# Altium schematic symbol library MCU_Microchip_SAMD.SchLib: 87 symbols (part 1 of 2)
Pins are listed as number, name and electrical type; pins without a type are passive.

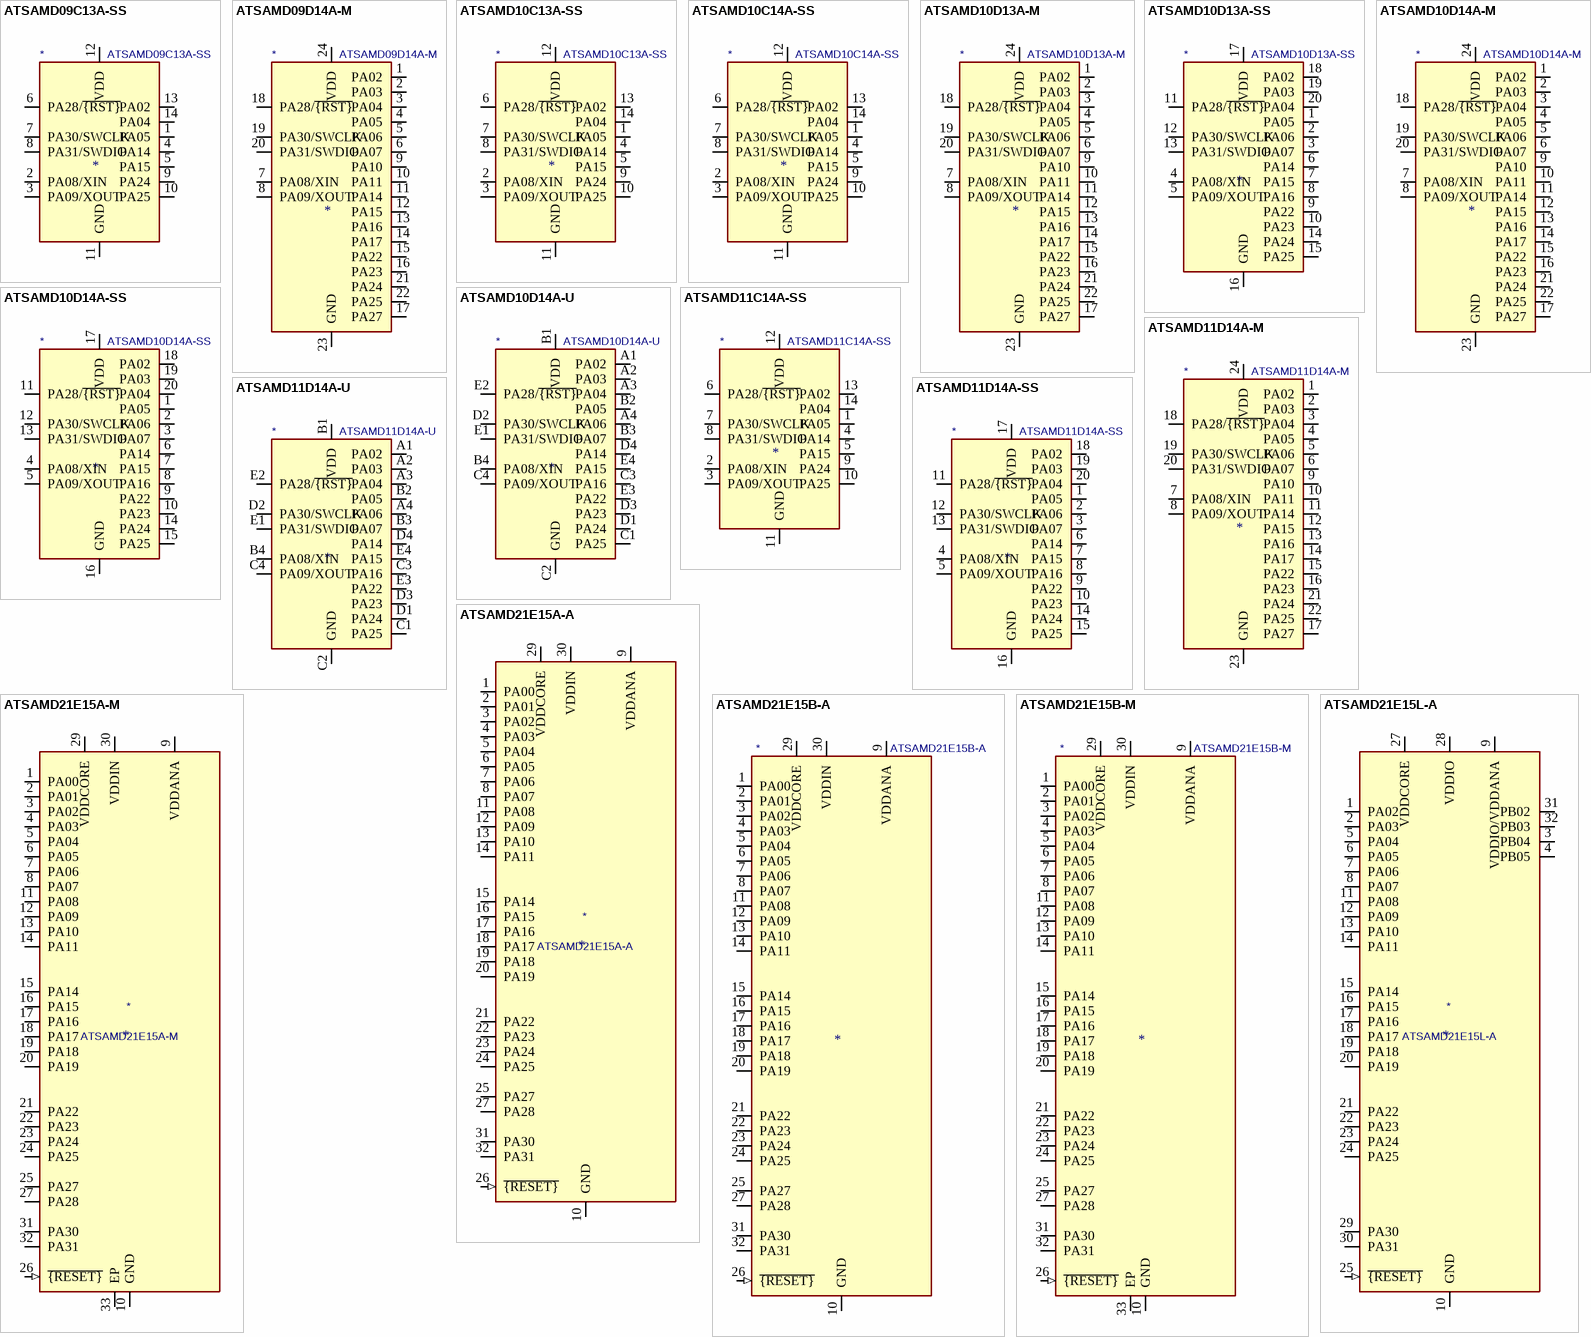
[diagram p0: symbols ATSAMD09C13A-SS to ATSAMD21E15L-A]

## ATSAMD09C13A-SS
designator *  value ATSAMD09C13A-SS
ki_keywords: 32-bit ARM Cortex-M0+ MCU Microcontroller; ki_description: ARM Cortex-M0+ MCU, 48MHz, 8KB Flash, 4KB RAM, 2.4-3.6V, 12 GPIO, SOIC-14; ki_fp_filters: SOIC*3.9x8.7mm*P1.27mm*; Footprint: Package_SO:SOIC-14_3.9x8.7mm_P1.27mm; Supplier: http://ww1.microchip.com/downloads/en/DeviceDoc/Atmel-42414-SAM-D09_Datasheet.pdf
footprint SOIC-14_3.9x8.7mm_P1.27mm
pins: 1 PA05 (io), 2 PA08/XIN (io), 3 PA09/XOUT (io), 4 PA14 (io), 5 PA15 (io), 6 PA28/~{{RST}} (io), 7 PA30/SWCLK (io), 8 PA31/SWDIO (io), 9 PA24 (io), 10 PA25 (io), 11 GND (power), 12 VDD (power), 13 PA02 (io), 14 PA04 (io)

## ATSAMD09D14A-M
designator *  value ATSAMD09D14A-M
ki_keywords: 32-bit ARM Cortex-M0+ MCU Microcontroller; ki_description: ARM Cortex-M0+ MCU, 48MHz, 16KB Flash, 4KB RAM, 2.4-3.6V, 22 GPIO, QFN-24; ki_fp_filters: QFN*1EP*4x4mm*P0.5mm*; Footprint: Package_DFN_QFN:QFN-24-1EP_4x4mm_P0.5mm_EP2.6x2.6mm; Supplier: http://ww1.microchip.com/downloads/en/DeviceDoc/Atmel-42414-SAM-D09_Datasheet.pdf
footprint QFN-24-1EP_4x4mm_P0.5mm_EP2.6x2.6mm
pins: 1 PA02 (io), 2 PA03 (io), 3 PA04 (io), 4 PA05 (io), 5 PA06 (io), 6 PA07 (io), 7 PA08/XIN (io), 8 PA09/XOUT (io), 9 PA10 (io), 10 PA11 (io), 11 PA14 (io), 12 PA15 (io), 13 PA16 (io), 14 PA17 (io), 15 PA22 (io), 16 PA23 (io), 17 PA27 (io), 18 PA28/~{{RST}} (io), 19 PA30/SWCLK (io), 20 PA31/SWDIO (io), 21 PA24 (io), 22 PA25 (io), 23 GND (power), 24 VDD (power)

## ATSAMD10C13A-SS
designator *  value ATSAMD10C13A-SS
ki_keywords: 32-bit ARM Cortex-M0+ MCU Microcontroller; ki_description: ARM Cortex-M0+ MCU, 48MHz, 8KB Flash, 4KB RAM, 1.6-3.6V, 12 GPIO, SOIC-14; ki_fp_filters: SOIC*3.9x8.7mm*P1.27mm*; Footprint: Package_SO:SOIC-14_3.9x8.7mm_P1.27mm; Supplier: http://ww1.microchip.com/downloads/en/DeviceDoc/Atmel-42242-SAM-D10_Datasheet.pdf
footprint SOIC-14_3.9x8.7mm_P1.27mm
pins: 1 PA05 (io), 2 PA08/XIN (io), 3 PA09/XOUT (io), 4 PA14 (io), 5 PA15 (io), 6 PA28/~{{RST}} (io), 7 PA30/SWCLK (io), 8 PA31/SWDIO (io), 9 PA24 (io), 10 PA25 (io), 11 GND (power), 12 VDD (power), 13 PA02 (io), 14 PA04 (io)

## ATSAMD10C14A-SS
designator *  value ATSAMD10C14A-SS
ki_keywords: 32-bit ARM Cortex-M0+ MCU Microcontroller; ki_description: ARM Cortex-M0+ MCU, 48MHz, 16KB Flash, 4KB RAM, 1.6-3.6V, 12 GPIO, SOIC-14; ki_fp_filters: SOIC*3.9x8.7mm*P1.27mm*; Footprint: Package_SO:SOIC-14_3.9x8.7mm_P1.27mm; Supplier: http://ww1.microchip.com/downloads/en/DeviceDoc/Atmel-42242-SAM-D10_Datasheet.pdf
footprint SOIC-14_3.9x8.7mm_P1.27mm
pins: 1 PA05 (io), 2 PA08/XIN (io), 3 PA09/XOUT (io), 4 PA14 (io), 5 PA15 (io), 6 PA28/~{{RST}} (io), 7 PA30/SWCLK (io), 8 PA31/SWDIO (io), 9 PA24 (io), 10 PA25 (io), 11 GND (power), 12 VDD (power), 13 PA02 (io), 14 PA04 (io)

## ATSAMD10D13A-M
designator *  value ATSAMD10D13A-M
ki_keywords: 32-bit ARM Cortex-M0+ MCU Microcontroller; ki_description: ARM Cortex-M0+ MCU, 48MHz, 8KB Flash, 4KB RAM, 1.6-3.6V, 22 GPIO, QFN-24; ki_fp_filters: QFN*1EP*4x4mm*P0.5mm*; Footprint: Package_DFN_QFN:QFN-24-1EP_4x4mm_P0.5mm_EP2.6x2.6mm; Supplier: http://ww1.microchip.com/downloads/en/DeviceDoc/Atmel-42242-SAM-D10_Datasheet.pdf
footprint QFN-24-1EP_4x4mm_P0.5mm_EP2.6x2.6mm
pins: 1 PA02 (io), 2 PA03 (io), 3 PA04 (io), 4 PA05 (io), 5 PA06 (io), 6 PA07 (io), 7 PA08/XIN (io), 8 PA09/XOUT (io), 9 PA10 (io), 10 PA11 (io), 11 PA14 (io), 12 PA15 (io), 13 PA16 (io), 14 PA17 (io), 15 PA22 (io), 16 PA23 (io), 17 PA27 (io), 18 PA28/~{{RST}} (io), 19 PA30/SWCLK (io), 20 PA31/SWDIO (io), 21 PA24 (io), 22 PA25 (io), 23 GND (power), 24 VDD (power)

## ATSAMD10D13A-SS
designator *  value ATSAMD10D13A-SS
ki_keywords: 32-bit ARM Cortex-M0+ MCU Microcontroller; ki_description: ARM Cortex-M0+ MCU, 48MHz, 8KB Flash, 4KB RAM, 1.6-3.6V, 18 GPIO, SOIC-20; ki_fp_filters: SOIC*7.5x12.8mm*P1.27mm*; Footprint: Package_SO:SOIC-20W_7.5x12.8mm_P1.27mm; Supplier: http://ww1.microchip.com/downloads/en/DeviceDoc/Atmel-42242-SAM-D10_Datasheet.pdf
footprint SOIC-20W_7.5x12.8mm_P1.27mm
pins: 1 PA05 (io), 2 PA06 (io), 3 PA07 (io), 4 PA08/XIN (io), 5 PA09/XOUT (io), 6 PA14 (io), 7 PA15 (io), 8 PA16 (io), 9 PA22 (io), 10 PA23 (io), 11 PA28/~{{RST}} (io), 12 PA30/SWCLK (io), 13 PA31/SWDIO (io), 14 PA24 (io), 15 PA25 (io), 16 GND (power), 17 VDD (power), 18 PA02 (io), 19 PA03 (io), 20 PA04 (io)

## ATSAMD10D14A-M
designator *  value ATSAMD10D14A-M
ki_keywords: 32-bit ARM Cortex-M0+ MCU Microcontroller; ki_description: ARM Cortex-M0+ MCU, 48MHz, 16KB Flash, 4KB RAM, 1.6-3.6V, 22 GPIO, QFN-24; ki_fp_filters: QFN*1EP*4x4mm*P0.5mm*; Footprint: Package_DFN_QFN:QFN-24-1EP_4x4mm_P0.5mm_EP2.6x2.6mm; Supplier: http://ww1.microchip.com/downloads/en/DeviceDoc/Atmel-42242-SAM-D10_Datasheet.pdf
footprint QFN-24-1EP_4x4mm_P0.5mm_EP2.6x2.6mm
pins: 1 PA02 (io), 2 PA03 (io), 3 PA04 (io), 4 PA05 (io), 5 PA06 (io), 6 PA07 (io), 7 PA08/XIN (io), 8 PA09/XOUT (io), 9 PA10 (io), 10 PA11 (io), 11 PA14 (io), 12 PA15 (io), 13 PA16 (io), 14 PA17 (io), 15 PA22 (io), 16 PA23 (io), 17 PA27 (io), 18 PA28/~{{RST}} (io), 19 PA30/SWCLK (io), 20 PA31/SWDIO (io), 21 PA24 (io), 22 PA25 (io), 23 GND (power), 24 VDD (power)

## ATSAMD10D14A-SS
designator *  value ATSAMD10D14A-SS
ki_keywords: 32-bit ARM Cortex-M0+ MCU Microcontroller; ki_description: ARM Cortex-M0+ MCU, 48MHz, 16KB Flash, 4KB RAM, 1.6-3.6V, 18 GPIO, SOIC-20; ki_fp_filters: SOIC*7.5x12.8mm*P1.27mm*; Footprint: Package_SO:SOIC-20W_7.5x12.8mm_P1.27mm; Supplier: http://ww1.microchip.com/downloads/en/DeviceDoc/Atmel-42242-SAM-D10_Datasheet.pdf
footprint SOIC-20W_7.5x12.8mm_P1.27mm
pins: 1 PA05 (io), 2 PA06 (io), 3 PA07 (io), 4 PA08/XIN (io), 5 PA09/XOUT (io), 6 PA14 (io), 7 PA15 (io), 8 PA16 (io), 9 PA22 (io), 10 PA23 (io), 11 PA28/~{{RST}} (io), 12 PA30/SWCLK (io), 13 PA31/SWDIO (io), 14 PA24 (io), 15 PA25 (io), 16 GND (power), 17 VDD (power), 18 PA02 (io), 19 PA03 (io), 20 PA04 (io)

## ATSAMD10D14A-U
designator *  value ATSAMD10D14A-U
ki_keywords: 32-bit ARM Cortex-M0+ MCU Microcontroller; ki_description: ARM Cortex-M0+ MCU, 48MHz, 16KB Flash, 4KB RAM, 1.6-3.6V, 18 GPIO, WLCSP-20; ki_fp_filters: WLCSP*1.934x2.434mm*Layout4x5*P0.4mm*; Footprint: Package_CSP:WLCSP-20_1.934x2.434mm_Layout4x5_P0.4mm; Supplier: http://ww1.microchip.com/downloads/en/DeviceDoc/Atmel-42242-SAM-D10_Datasheet.pdf
footprint WLCSP-20_1.934x2.434mm_Layout4x5_P0.4mm
pins: A1 PA02 (io), A2 PA03 (io), A3 PA04 (io), A4 PA06 (io), B1 VDD (power), B2 PA05 (io), B3 PA07 (io), B4 PA08/XIN (io), C1 PA25 (io), C2 GND (power), C3 PA16 (io), C4 PA09/XOUT (io), D1 PA24 (io), D2 PA30/SWCLK (io), D3 PA23 (io), D4 PA14 (io), E1 PA31/SWDIO (io), E2 PA28/~{{RST}} (io), E3 PA22 (io), E4 PA15 (io)

## ATSAMD11C14A-SS
designator *  value ATSAMD11C14A-SS
ki_keywords: 32-bit ARM Cortex-M0+ MCU Microcontroller; ki_description: ARM Cortex-M0+ MCU, 48MHz, 16KB Flash, 4KB RAM, 1.6-3.6V, 18 GPIO, SOIC-14; ki_fp_filters: SOIC*3.9x8.7mm*P1.27mm*; Footprint: Package_SO:SOIC-14_3.9x8.7mm_P1.27mm; Supplier: http://ww1.microchip.com/downloads/en/DeviceDoc/Atmel-42363-SAM-D11_Datasheet.pdf
footprint SOIC-14_3.9x8.7mm_P1.27mm
pins: 1 PA05 (io), 2 PA08/XIN (io), 3 PA09/XOUT (io), 4 PA14 (io), 5 PA15 (io), 6 PA28/~{{RST}} (io), 7 PA30/SWCLK (io), 8 PA31/SWDIO (io), 9 PA24 (io), 10 PA25 (io), 11 GND (power), 12 VDD (power), 13 PA02 (io), 14 PA04 (io)

## ATSAMD11D14A-M
designator *  value ATSAMD11D14A-M
ki_keywords: 32-bit ARM Cortex-M0+ MCU Microcontroller; ki_description: ARM Cortex-M0+ MCU, 48MHz, 16KB Flash, 4KB RAM, 1.6-3.6V, 22 GPIO, QFN-24; ki_fp_filters: QFN*1EP*4x4mm*P0.5mm*; Footprint: Package_DFN_QFN:QFN-24-1EP_4x4mm_P0.5mm_EP2.6x2.6mm; Supplier: http://ww1.microchip.com/downloads/en/DeviceDoc/Atmel-42363-SAM-D11_Datasheet.pdf
footprint QFN-24-1EP_4x4mm_P0.5mm_EP2.6x2.6mm
pins: 1 PA02 (io), 2 PA03 (io), 3 PA04 (io), 4 PA05 (io), 5 PA06 (io), 6 PA07 (io), 7 PA08/XIN (io), 8 PA09/XOUT (io), 9 PA10 (io), 10 PA11 (io), 11 PA14 (io), 12 PA15 (io), 13 PA16 (io), 14 PA17 (io), 15 PA22 (io), 16 PA23 (io), 17 PA27 (io), 18 PA28/~{{RST}} (io), 19 PA30/SWCLK (io), 20 PA31/SWDIO (io), 21 PA24 (io), 22 PA25 (io), 23 GND (power), 24 VDD (power)

## ATSAMD11D14A-SS
designator *  value ATSAMD11D14A-SS
ki_keywords: 32-bit ARM Cortex-M0+ MCU Microcontroller; ki_description: ARM Cortex-M0+ MCU, 48MHz, 16KB Flash, 4KB RAM, 1.6-3.6V, 18 GPIO, SOIC-20; ki_fp_filters: SOIC*7.5x12.8mm*P1.27mm*; Footprint: Package_SO:SOIC-20W_7.5x12.8mm_P1.27mm; Supplier: http://ww1.microchip.com/downloads/en/DeviceDoc/Atmel-42363-SAM-D11_Datasheet.pdf
footprint SOIC-20W_7.5x12.8mm_P1.27mm
pins: 1 PA05 (io), 2 PA06 (io), 3 PA07 (io), 4 PA08/XIN (io), 5 PA09/XOUT (io), 6 PA14 (io), 7 PA15 (io), 8 PA16 (io), 9 PA22 (io), 10 PA23 (io), 11 PA28/~{{RST}} (io), 12 PA30/SWCLK (io), 13 PA31/SWDIO (io), 14 PA24 (io), 15 PA25 (io), 16 GND (power), 17 VDD (power), 18 PA02 (io), 19 PA03 (io), 20 PA04 (io)

## ATSAMD11D14A-U
designator *  value ATSAMD11D14A-U
ki_keywords: 32-bit ARM Cortex-M0+ MCU Microcontroller; ki_description: ARM Cortex-M0+ MCU, 48MHz, 16KB Flash, 4KB RAM, 1.6-3.6V, 18 GPIO, WLCSP-20; ki_fp_filters: WLCSP*1.934x2.434mm*Layout4x5*P0.4mm*; Footprint: Package_CSP:WLCSP-20_1.934x2.434mm_Layout4x5_P0.4mm; Supplier: http://ww1.microchip.com/downloads/en/DeviceDoc/Atmel-42363-SAM-D11_Datasheet.pdf
footprint WLCSP-20_1.934x2.434mm_Layout4x5_P0.4mm
pins: A1 PA02 (io), A2 PA03 (io), A3 PA04 (io), A4 PA06 (io), B1 VDD (power), B2 PA05 (io), B3 PA07 (io), B4 PA08/XIN (io), C1 PA25 (io), C2 GND (power), C3 PA16 (io), C4 PA09/XOUT (io), D1 PA24 (io), D2 PA30/SWCLK (io), D3 PA23 (io), D4 PA14 (io), E1 PA31/SWDIO (io), E2 PA28/~{{RST}} (io), E3 PA22 (io), E4 PA15 (io)

## ATSAMD21E15A-A
designator *  value ATSAMD21E15A-A
ki_keywords: 32-bit ARM Cortex-M0+ MCU Microcontroller; ki_description: SAM D21 Microchip SMART ARM-based Flash MCU, 48Mhz, 32K Flash, 4K SRAM, TQFP-32; ki_fp_filters: TQFP*7x7mm*P0.8mm*; Footprint: Package_QFP:TQFP-32_7x7mm_P0.8mm; Supplier: http://ww1.microchip.com/downloads/en/DeviceDoc/SAM_D21_DA1_Family_Data%20Sheet_DS40001882E.pdf
footprint TQFP-32_7x7mm_P0.8mm
pins: 1 PA00 (io), 2 PA01 (io), 3 PA02 (io), 4 PA03 (io), 5 PA04 (io), 6 PA05 (io), 7 PA06 (io), 8 PA07 (io), 9 VDDANA (power), 10 GND (power), 11 PA08 (io), 12 PA09 (io), 13 PA10 (io), 14 PA11 (io), 15 PA14 (io), 16 PA15 (io), 17 PA16 (io), 18 PA17 (io), 19 PA18 (io), 20 PA19 (io), 21 PA22 (io), 22 PA23 (io), 23 PA24 (io), 24 PA25 (io), 25 PA27 (io), 26 ~{{RESET}} (in), 27 PA28 (io), 28 GND hidden, 29 VDDCORE (power), 30 VDDIN (power), 31 PA30 (io), 32 PA31 (io)

## ATSAMD21E15A-M
designator *  value ATSAMD21E15A-M
ki_keywords: 32-bit ARM Cortex-M0+ MCU Microcontroller; ki_description: SAM D21 Microchip SMART ARM-based Flash MCU, 48Mhz, 32K Flash, 4K SRAM, QFN-32; ki_fp_filters: QFN*5x5mm*P0.5mm*; Footprint: Package_DFN_QFN:QFN-32-1EP_5x5mm_P0.5mm_EP3.6x3.6mm; Supplier: http://ww1.microchip.com/downloads/en/DeviceDoc/SAM_D21_DA1_Family_Data%20Sheet_DS40001882E.pdf
footprint QFN-32-1EP_5x5mm_P0.5mm_EP3.6x3.6mm
pins: 1 PA00 (io), 2 PA01 (io), 3 PA02 (io), 4 PA03 (io), 5 PA04 (io), 6 PA05 (io), 7 PA06 (io), 8 PA07 (io), 9 VDDANA (power), 10 GND (power), 11 PA08 (io), 12 PA09 (io), 13 PA10 (io), 14 PA11 (io), 15 PA14 (io), 16 PA15 (io), 17 PA16 (io), 18 PA17 (io), 19 PA18 (io), 20 PA19 (io), 21 PA22 (io), 22 PA23 (io), 23 PA24 (io), 24 PA25 (io), 25 PA27 (io), 26 ~{{RESET}} (in), 27 PA28 (io), 28 GND hidden, 29 VDDCORE (power), 30 VDDIN (power), 31 PA30 (io), 32 PA31 (io), 33 EP

## ATSAMD21E15B-A
designator *  value ATSAMD21E15B-A
ki_keywords: 32-bit ARM Cortex-M0+ MCU Microcontroller; ki_description: SAM D21 Microchip SMART ARM-based Flash MCU, 48Mhz, 32K Flash w/ 1K RWW, 4K SRAM, TQFP-32; ki_fp_filters: TQFP*7x7mm*P0.8mm*; Footprint: Package_QFP:TQFP-32_7x7mm_P0.8mm; Supplier: http://ww1.microchip.com/downloads/en/DeviceDoc/SAM_D21_DA1_Family_Data%20Sheet_DS40001882E.pdf
footprint TQFP-32_7x7mm_P0.8mm
pins: 1 PA00 (io), 2 PA01 (io), 3 PA02 (io), 4 PA03 (io), 5 PA04 (io), 6 PA05 (io), 7 PA06 (io), 8 PA07 (io), 9 VDDANA (power), 10 GND (power), 11 PA08 (io), 12 PA09 (io), 13 PA10 (io), 14 PA11 (io), 15 PA14 (io), 16 PA15 (io), 17 PA16 (io), 18 PA17 (io), 19 PA18 (io), 20 PA19 (io), 21 PA22 (io), 22 PA23 (io), 23 PA24 (io), 24 PA25 (io), 25 PA27 (io), 26 ~{{RESET}} (in), 27 PA28 (io), 28 GND hidden, 29 VDDCORE (power), 30 VDDIN (power), 31 PA30 (io), 32 PA31 (io)

## ATSAMD21E15B-M
designator *  value ATSAMD21E15B-M
ki_keywords: 32-bit ARM Cortex-M0+ MCU Microcontroller; ki_description: SAM D21 Microchip SMART ARM-based Flash MCU, 48Mhz, 32K Flash w/ 1K RWW, 4K SRAM, QFN-32; ki_fp_filters: QFN*5x5mm*P0.5mm*; Footprint: Package_DFN_QFN:QFN-32-1EP_5x5mm_P0.5mm_EP3.6x3.6mm; Supplier: http://ww1.microchip.com/downloads/en/DeviceDoc/SAM_D21_DA1_Family_Data%20Sheet_DS40001882E.pdf
footprint QFN-32-1EP_5x5mm_P0.5mm_EP3.6x3.6mm
pins: 1 PA00 (io), 2 PA01 (io), 3 PA02 (io), 4 PA03 (io), 5 PA04 (io), 6 PA05 (io), 7 PA06 (io), 8 PA07 (io), 9 VDDANA (power), 10 GND (power), 11 PA08 (io), 12 PA09 (io), 13 PA10 (io), 14 PA11 (io), 15 PA14 (io), 16 PA15 (io), 17 PA16 (io), 18 PA17 (io), 19 PA18 (io), 20 PA19 (io), 21 PA22 (io), 22 PA23 (io), 23 PA24 (io), 24 PA25 (io), 25 PA27 (io), 26 ~{{RESET}} (in), 27 PA28 (io), 28 GND hidden, 29 VDDCORE (power), 30 VDDIN (power), 31 PA30 (io), 32 PA31 (io), 33 EP

## ATSAMD21E15L-A
designator *  value ATSAMD21E15L-A
ki_keywords: 32-bit ARM Cortex-M0+ MCU Microcontroller; ki_description: SAM D21 Microchip SMART ARM-based Flash MCU, 48Mhz, 32K Flash w/ 1K RWW, 4K SRAM, Pinout Optimized for Analog & PWM, TQFP-32; ki_fp_filters: TQFP*7x7mm*P0.8mm*; Footprint: Package_QFP:TQFP-32_7x7mm_P0.8mm; Supplier: http://ww1.microchip.com/downloads/en/DeviceDoc/SAM_D21_DA1_Family_Data%20Sheet_DS40001882E.pdf
footprint TQFP-32_7x7mm_P0.8mm
pins: 1 PA02 (io), 2 PA03 (io), 3 PB04 (io), 4 PB05 (io), 5 PA04 (io), 6 PA05 (io), 7 PA06 (io), 8 PA07 (io), 9 VDDIO/VDDANA (power), 10 GND (power), 11 PA08 (io), 12 PA09 (io), 13 PA10 (io), 14 PA11 (io), 15 PA14 (io), 16 PA15 (io), 17 PA16 (io), 18 PA17 (io), 19 PA18 (io), 20 PA19 (io), 21 PA22 (io), 22 PA23 (io), 23 PA24 (io), 24 PA25 (io), 25 ~{{RESET}} (in), 26 GND hidden, 27 VDDCORE (power), 28 VDDIO (power), 29 PA30 (io), 30 PA31 (io), 31 PB02 (io), 32 PB03 (io)

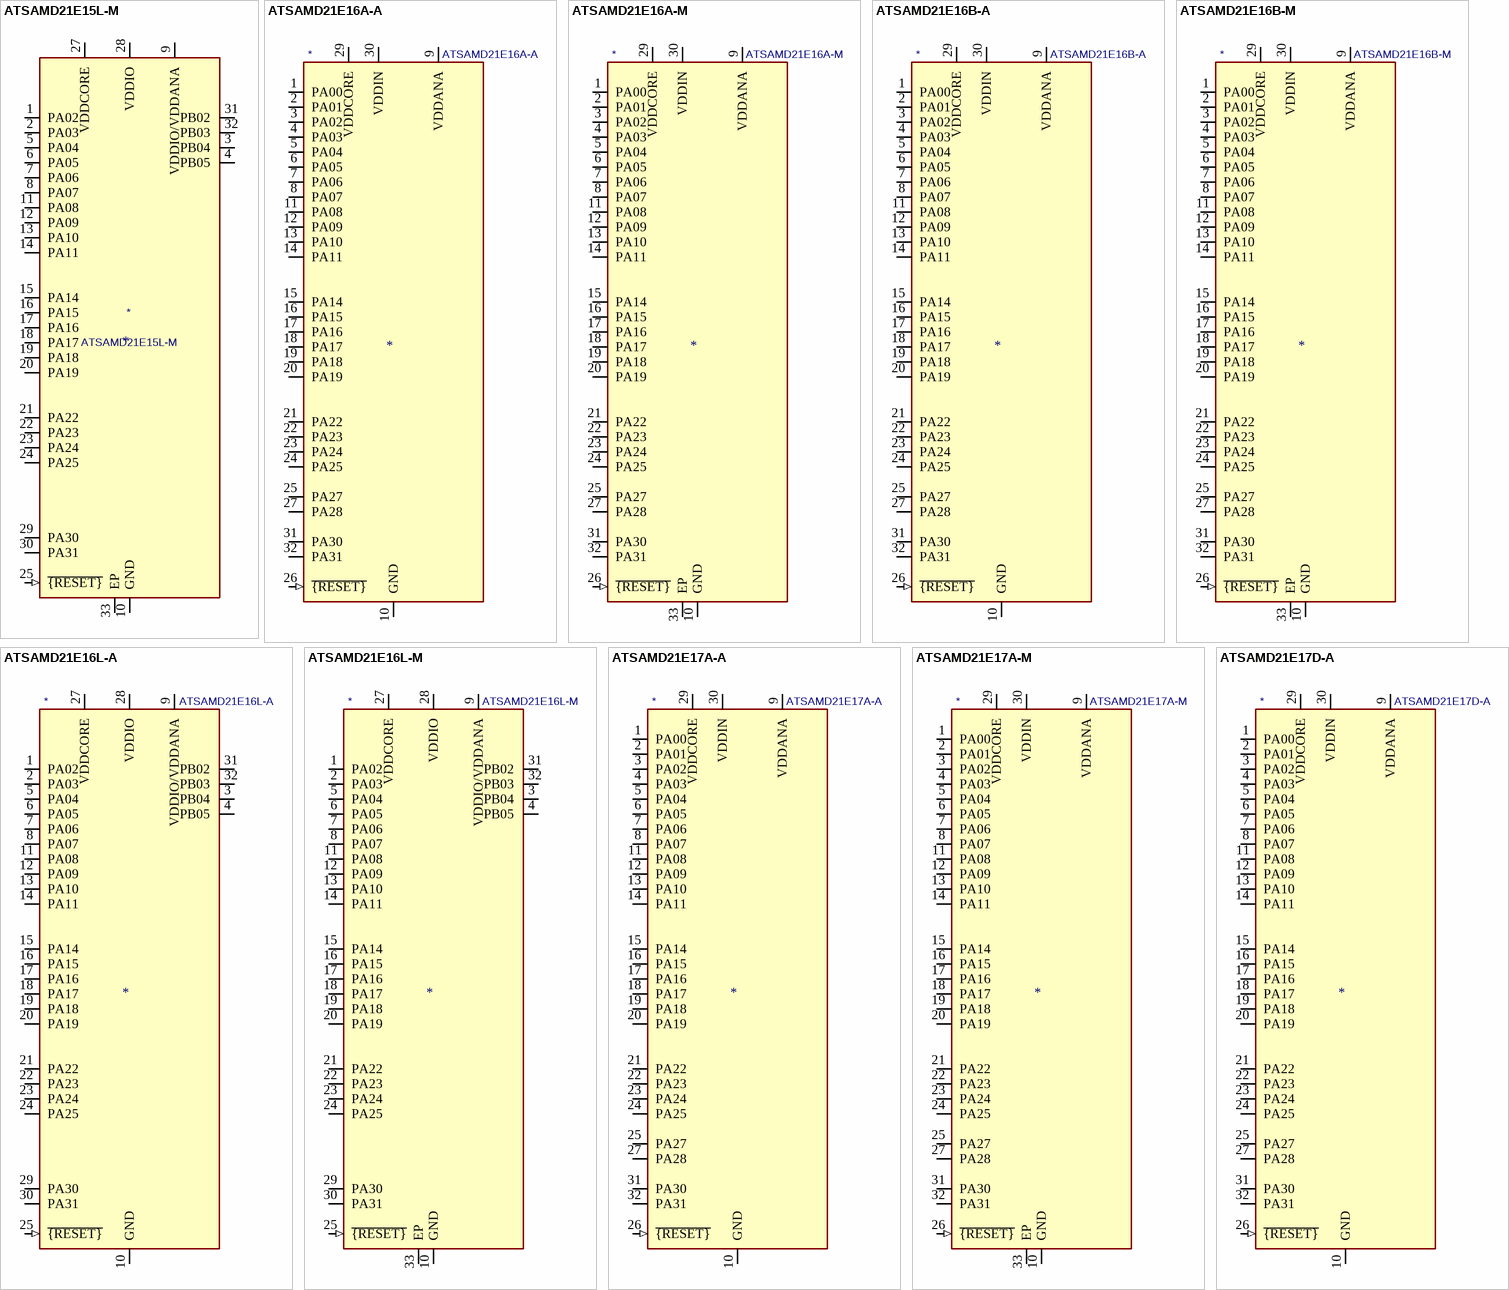
[diagram p1: symbols ATSAMD21E15L-M to ATSAMD21E17D-A]

## ATSAMD21E15L-M
designator *  value ATSAMD21E15L-M
ki_keywords: 32-bit ARM Cortex-M0+ MCU Microcontroller; ki_description: SAM D21 Microchip SMART ARM-based Flash MCU, 48Mhz, 32K Flash w/ 1K RWW, 4K SRAM, Pinout Optimized for Analog & PWM, QFN-32; ki_fp_filters: QFN*5x5mm*P0.5mm*; Footprint: Package_DFN_QFN:QFN-32-1EP_5x5mm_P0.5mm_EP3.6x3.6mm; Supplier: http://ww1.microchip.com/downloads/en/DeviceDoc/SAM_D21_DA1_Family_Data%20Sheet_DS40001882E.pdf
footprint QFN-32-1EP_5x5mm_P0.5mm_EP3.6x3.6mm
pins: 1 PA02 (io), 2 PA03 (io), 3 PB04 (io), 4 PB05 (io), 5 PA04 (io), 6 PA05 (io), 7 PA06 (io), 8 PA07 (io), 9 VDDIO/VDDANA (power), 10 GND (power), 11 PA08 (io), 12 PA09 (io), 13 PA10 (io), 14 PA11 (io), 15 PA14 (io), 16 PA15 (io), 17 PA16 (io), 18 PA17 (io), 19 PA18 (io), 20 PA19 (io), 21 PA22 (io), 22 PA23 (io), 23 PA24 (io), 24 PA25 (io), 25 ~{{RESET}} (in), 26 GND hidden, 27 VDDCORE (power), 28 VDDIO (power), 29 PA30 (io), 30 PA31 (io), 31 PB02 (io), 32 PB03 (io), 33 EP

## ATSAMD21E16A-A
designator *  value ATSAMD21E16A-A
ki_keywords: 32-bit ARM Cortex-M0+ MCU Microcontroller; ki_description: SAM D21 Microchip SMART ARM-based Flash MCU, 48Mhz, 64K Flash, 8K SRAM, TQFP-32; ki_fp_filters: TQFP*7x7mm*P0.8mm*; Footprint: Package_QFP:TQFP-32_7x7mm_P0.8mm; Supplier: http://ww1.microchip.com/downloads/en/DeviceDoc/SAM_D21_DA1_Family_Data%20Sheet_DS40001882E.pdf
footprint TQFP-32_7x7mm_P0.8mm
pins: 1 PA00 (io), 2 PA01 (io), 3 PA02 (io), 4 PA03 (io), 5 PA04 (io), 6 PA05 (io), 7 PA06 (io), 8 PA07 (io), 9 VDDANA (power), 10 GND (power), 11 PA08 (io), 12 PA09 (io), 13 PA10 (io), 14 PA11 (io), 15 PA14 (io), 16 PA15 (io), 17 PA16 (io), 18 PA17 (io), 19 PA18 (io), 20 PA19 (io), 21 PA22 (io), 22 PA23 (io), 23 PA24 (io), 24 PA25 (io), 25 PA27 (io), 26 ~{{RESET}} (in), 27 PA28 (io), 28 GND hidden, 29 VDDCORE (power), 30 VDDIN (power), 31 PA30 (io), 32 PA31 (io)

## ATSAMD21E16A-M
designator *  value ATSAMD21E16A-M
ki_keywords: 32-bit ARM Cortex-M0+ MCU Microcontroller; ki_description: SAM D21 Microchip SMART ARM-based Flash MCU, 48Mhz, 64K Flash, 8K SRAM, QFN-32; ki_fp_filters: QFN*5x5mm*P0.5mm*; Footprint: Package_DFN_QFN:QFN-32-1EP_5x5mm_P0.5mm_EP3.6x3.6mm; Supplier: http://ww1.microchip.com/downloads/en/DeviceDoc/SAM_D21_DA1_Family_Data%20Sheet_DS40001882E.pdf
footprint QFN-32-1EP_5x5mm_P0.5mm_EP3.6x3.6mm
pins: 1 PA00 (io), 2 PA01 (io), 3 PA02 (io), 4 PA03 (io), 5 PA04 (io), 6 PA05 (io), 7 PA06 (io), 8 PA07 (io), 9 VDDANA (power), 10 GND (power), 11 PA08 (io), 12 PA09 (io), 13 PA10 (io), 14 PA11 (io), 15 PA14 (io), 16 PA15 (io), 17 PA16 (io), 18 PA17 (io), 19 PA18 (io), 20 PA19 (io), 21 PA22 (io), 22 PA23 (io), 23 PA24 (io), 24 PA25 (io), 25 PA27 (io), 26 ~{{RESET}} (in), 27 PA28 (io), 28 GND hidden, 29 VDDCORE (power), 30 VDDIN (power), 31 PA30 (io), 32 PA31 (io), 33 EP

## ATSAMD21E16B-A
designator *  value ATSAMD21E16B-A
ki_keywords: 32-bit ARM Cortex-M0+ MCU Microcontroller; ki_description: SAM D21 Microchip SMART ARM-based Flash MCU, 48Mhz, 64K Flash w/ 2K RWW, 8K SRAM, TQFP-32; ki_fp_filters: TQFP*7x7mm*P0.8mm*; Footprint: Package_QFP:TQFP-32_7x7mm_P0.8mm; Supplier: http://ww1.microchip.com/downloads/en/DeviceDoc/SAM_D21_DA1_Family_Data%20Sheet_DS40001882E.pdf
footprint TQFP-32_7x7mm_P0.8mm
pins: 1 PA00 (io), 2 PA01 (io), 3 PA02 (io), 4 PA03 (io), 5 PA04 (io), 6 PA05 (io), 7 PA06 (io), 8 PA07 (io), 9 VDDANA (power), 10 GND (power), 11 PA08 (io), 12 PA09 (io), 13 PA10 (io), 14 PA11 (io), 15 PA14 (io), 16 PA15 (io), 17 PA16 (io), 18 PA17 (io), 19 PA18 (io), 20 PA19 (io), 21 PA22 (io), 22 PA23 (io), 23 PA24 (io), 24 PA25 (io), 25 PA27 (io), 26 ~{{RESET}} (in), 27 PA28 (io), 28 GND hidden, 29 VDDCORE (power), 30 VDDIN (power), 31 PA30 (io), 32 PA31 (io)

## ATSAMD21E16B-M
designator *  value ATSAMD21E16B-M
ki_keywords: 32-bit ARM Cortex-M0+ MCU Microcontroller; ki_description: SAM D21 Microchip SMART ARM-based Flash MCU, 48Mhz, 64K Flash w/ 2K RWW, 8K SRAM, QFN-32; ki_fp_filters: QFN*5x5mm*P0.5mm*; Footprint: Package_DFN_QFN:QFN-32-1EP_5x5mm_P0.5mm_EP3.6x3.6mm; Supplier: http://ww1.microchip.com/downloads/en/DeviceDoc/SAM_D21_DA1_Family_Data%20Sheet_DS40001882E.pdf
footprint QFN-32-1EP_5x5mm_P0.5mm_EP3.6x3.6mm
pins: 1 PA00 (io), 2 PA01 (io), 3 PA02 (io), 4 PA03 (io), 5 PA04 (io), 6 PA05 (io), 7 PA06 (io), 8 PA07 (io), 9 VDDANA (power), 10 GND (power), 11 PA08 (io), 12 PA09 (io), 13 PA10 (io), 14 PA11 (io), 15 PA14 (io), 16 PA15 (io), 17 PA16 (io), 18 PA17 (io), 19 PA18 (io), 20 PA19 (io), 21 PA22 (io), 22 PA23 (io), 23 PA24 (io), 24 PA25 (io), 25 PA27 (io), 26 ~{{RESET}} (in), 27 PA28 (io), 28 GND hidden, 29 VDDCORE (power), 30 VDDIN (power), 31 PA30 (io), 32 PA31 (io), 33 EP

## ATSAMD21E16L-A
designator *  value ATSAMD21E16L-A
ki_keywords: 32-bit ARM Cortex-M0+ MCU Microcontroller; ki_description: SAM D21 Microchip SMART ARM-based Flash MCU, 48Mhz, 64K Flash w/ 2K RWW, 8K SRAM, Pinout Optimized for Analog & PWM, TQFP-32; ki_fp_filters: TQFP*7x7mm*P0.8mm*; Footprint: Package_QFP:TQFP-32_7x7mm_P0.8mm; Supplier: http://ww1.microchip.com/downloads/en/DeviceDoc/SAM_D21_DA1_Family_Data%20Sheet_DS40001882E.pdf
footprint TQFP-32_7x7mm_P0.8mm
pins: 1 PA02 (io), 2 PA03 (io), 3 PB04 (io), 4 PB05 (io), 5 PA04 (io), 6 PA05 (io), 7 PA06 (io), 8 PA07 (io), 9 VDDIO/VDDANA (power), 10 GND (power), 11 PA08 (io), 12 PA09 (io), 13 PA10 (io), 14 PA11 (io), 15 PA14 (io), 16 PA15 (io), 17 PA16 (io), 18 PA17 (io), 19 PA18 (io), 20 PA19 (io), 21 PA22 (io), 22 PA23 (io), 23 PA24 (io), 24 PA25 (io), 25 ~{{RESET}} (in), 26 GND hidden, 27 VDDCORE (power), 28 VDDIO (power), 29 PA30 (io), 30 PA31 (io), 31 PB02 (io), 32 PB03 (io)

## ATSAMD21E16L-M
designator *  value ATSAMD21E16L-M
ki_keywords: 32-bit ARM Cortex-M0+ MCU Microcontroller; ki_description: SAM D21 Microchip SMART ARM-based Flash MCU, 48Mhz, 64K Flash w/ 2K RWW, 8K SRAM, Pinout Optimized for Analog & PWM, QFN-32; ki_fp_filters: QFN*5x5mm*P0.5mm*; Footprint: Package_DFN_QFN:QFN-32-1EP_5x5mm_P0.5mm_EP3.6x3.6mm; Supplier: http://ww1.microchip.com/downloads/en/DeviceDoc/SAM_D21_DA1_Family_Data%20Sheet_DS40001882E.pdf
footprint QFN-32-1EP_5x5mm_P0.5mm_EP3.6x3.6mm
pins: 1 PA02 (io), 2 PA03 (io), 3 PB04 (io), 4 PB05 (io), 5 PA04 (io), 6 PA05 (io), 7 PA06 (io), 8 PA07 (io), 9 VDDIO/VDDANA (power), 10 GND (power), 11 PA08 (io), 12 PA09 (io), 13 PA10 (io), 14 PA11 (io), 15 PA14 (io), 16 PA15 (io), 17 PA16 (io), 18 PA17 (io), 19 PA18 (io), 20 PA19 (io), 21 PA22 (io), 22 PA23 (io), 23 PA24 (io), 24 PA25 (io), 25 ~{{RESET}} (in), 26 GND hidden, 27 VDDCORE (power), 28 VDDIO (power), 29 PA30 (io), 30 PA31 (io), 31 PB02 (io), 32 PB03 (io), 33 EP

## ATSAMD21E17A-A
designator *  value ATSAMD21E17A-A
ki_keywords: 32-bit ARM Cortex-M0+ MCU Microcontroller; ki_description: SAM D21 Microchip SMART ARM-based Flash MCU, 48Mhz, 128K Flash, 16K SRAM, TQFP-32; ki_fp_filters: TQFP*7x7mm*P0.8mm*; Footprint: Package_QFP:TQFP-32_7x7mm_P0.8mm; Supplier: http://ww1.microchip.com/downloads/en/DeviceDoc/SAM_D21_DA1_Family_Data%20Sheet_DS40001882E.pdf
footprint TQFP-32_7x7mm_P0.8mm
pins: 1 PA00 (io), 2 PA01 (io), 3 PA02 (io), 4 PA03 (io), 5 PA04 (io), 6 PA05 (io), 7 PA06 (io), 8 PA07 (io), 9 VDDANA (power), 10 GND (power), 11 PA08 (io), 12 PA09 (io), 13 PA10 (io), 14 PA11 (io), 15 PA14 (io), 16 PA15 (io), 17 PA16 (io), 18 PA17 (io), 19 PA18 (io), 20 PA19 (io), 21 PA22 (io), 22 PA23 (io), 23 PA24 (io), 24 PA25 (io), 25 PA27 (io), 26 ~{{RESET}} (in), 27 PA28 (io), 28 GND hidden, 29 VDDCORE (power), 30 VDDIN (power), 31 PA30 (io), 32 PA31 (io)

## ATSAMD21E17A-M
designator *  value ATSAMD21E17A-M
ki_keywords: 32-bit ARM Cortex-M0+ MCU Microcontroller; ki_description: SAM D21 Microchip SMART ARM-based Flash MCU, 48Mhz, 128K Flash, 16K SRAM, QFN-32; ki_fp_filters: QFN*5x5mm*P0.5mm*; Footprint: Package_DFN_QFN:QFN-32-1EP_5x5mm_P0.5mm_EP3.6x3.6mm; Supplier: http://ww1.microchip.com/downloads/en/DeviceDoc/SAM_D21_DA1_Family_Data%20Sheet_DS40001882E.pdf
footprint QFN-32-1EP_5x5mm_P0.5mm_EP3.6x3.6mm
pins: 1 PA00 (io), 2 PA01 (io), 3 PA02 (io), 4 PA03 (io), 5 PA04 (io), 6 PA05 (io), 7 PA06 (io), 8 PA07 (io), 9 VDDANA (power), 10 GND (power), 11 PA08 (io), 12 PA09 (io), 13 PA10 (io), 14 PA11 (io), 15 PA14 (io), 16 PA15 (io), 17 PA16 (io), 18 PA17 (io), 19 PA18 (io), 20 PA19 (io), 21 PA22 (io), 22 PA23 (io), 23 PA24 (io), 24 PA25 (io), 25 PA27 (io), 26 ~{{RESET}} (in), 27 PA28 (io), 28 GND hidden, 29 VDDCORE (power), 30 VDDIN (power), 31 PA30 (io), 32 PA31 (io), 33 EP

## ATSAMD21E17D-A
designator *  value ATSAMD21E17D-A
ki_keywords: 32-bit ARM Cortex-M0+ MCU Microcontroller; ki_description: SAM D21 Microchip SMART ARM-based Flash MCU, 48Mhz, 128K Flash w/ 4K RWW, 16K SRAM, TQFP-32; ki_fp_filters: TQFP*7x7mm*P0.8mm*; Footprint: Package_QFP:TQFP-32_7x7mm_P0.8mm; Supplier: http://ww1.microchip.com/downloads/en/DeviceDoc/SAM_D21_DA1_Family_Data%20Sheet_DS40001882E.pdf
footprint TQFP-32_7x7mm_P0.8mm
pins: 1 PA00 (io), 2 PA01 (io), 3 PA02 (io), 4 PA03 (io), 5 PA04 (io), 6 PA05 (io), 7 PA06 (io), 8 PA07 (io), 9 VDDANA (power), 10 GND (power), 11 PA08 (io), 12 PA09 (io), 13 PA10 (io), 14 PA11 (io), 15 PA14 (io), 16 PA15 (io), 17 PA16 (io), 18 PA17 (io), 19 PA18 (io), 20 PA19 (io), 21 PA22 (io), 22 PA23 (io), 23 PA24 (io), 24 PA25 (io), 25 PA27 (io), 26 ~{{RESET}} (in), 27 PA28 (io), 28 GND hidden, 29 VDDCORE (power), 30 VDDIN (power), 31 PA30 (io), 32 PA31 (io)

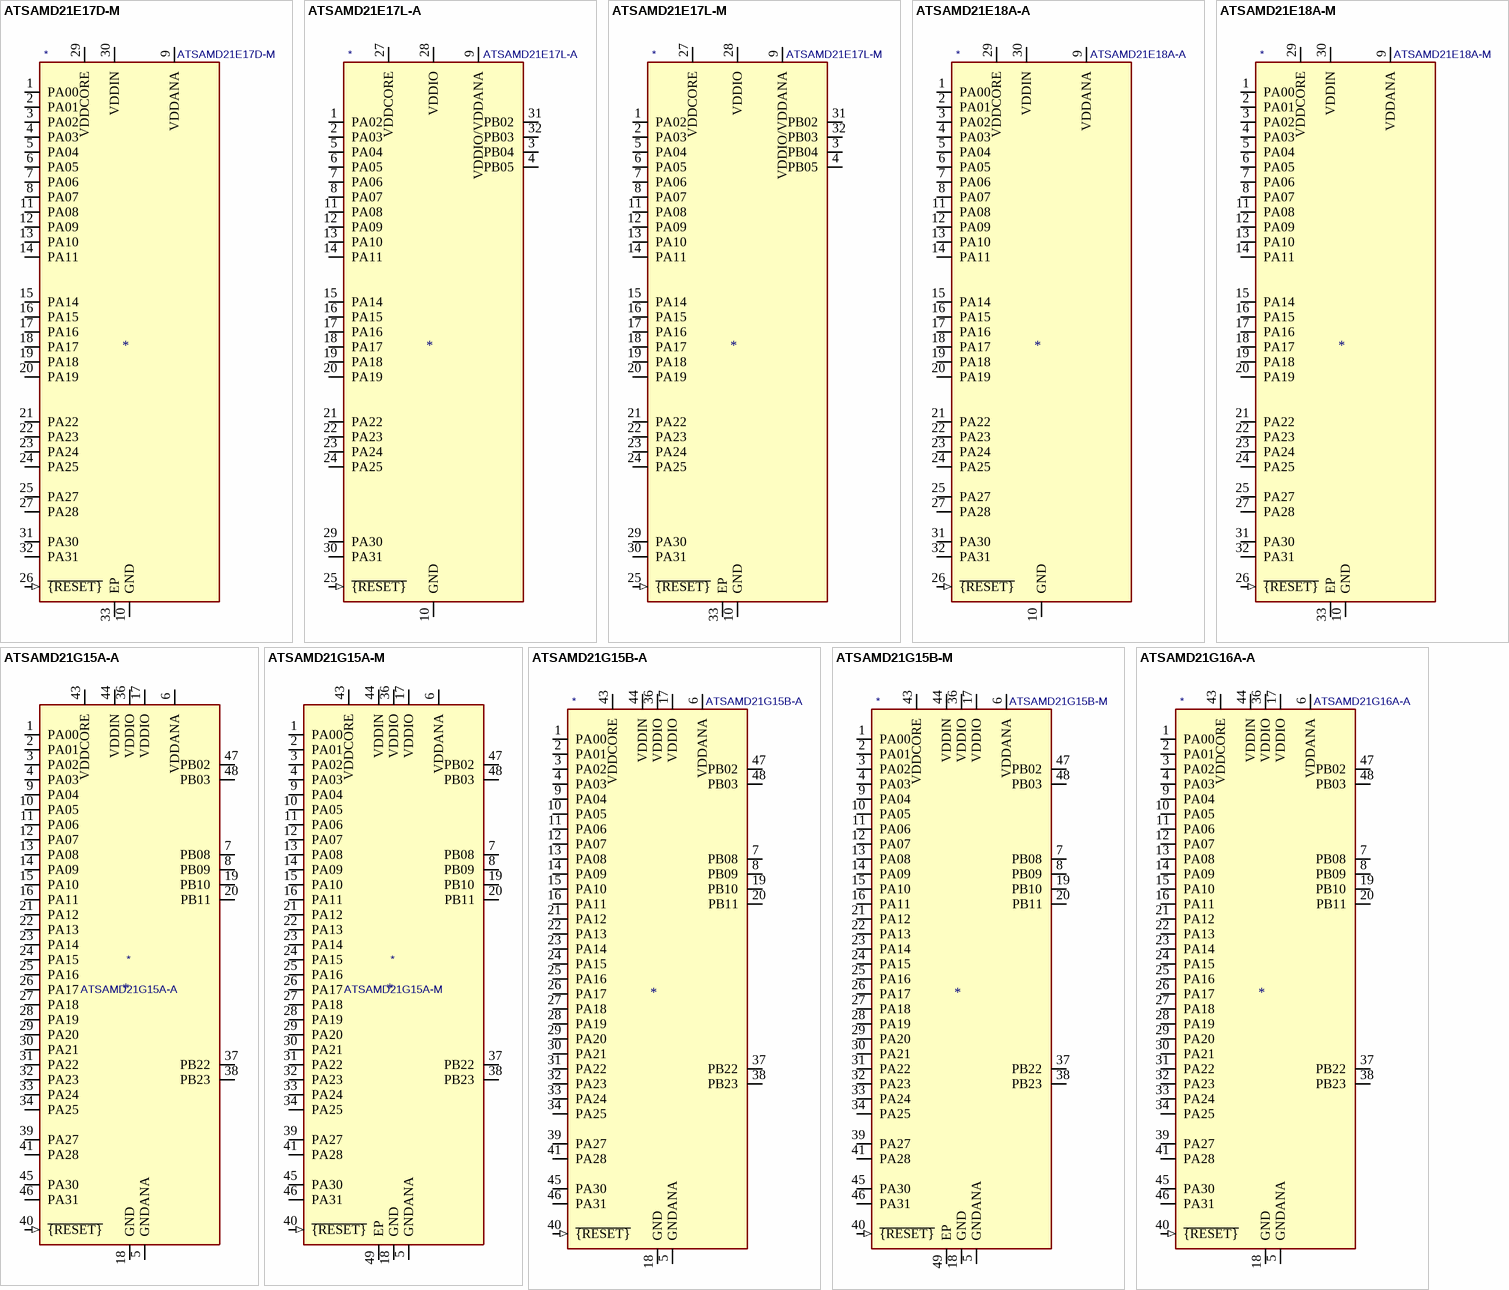
[diagram p2: symbols ATSAMD21E17D-M to ATSAMD21G16A-A]

## ATSAMD21E17D-M
designator *  value ATSAMD21E17D-M
ki_keywords: 32-bit ARM Cortex-M0+ MCU Microcontroller; ki_description: SAM D21 Microchip SMART ARM-based Flash MCU, 48Mhz, 128K Flash w/ 4K RWW, 16K SRAM, QFN-32; ki_fp_filters: QFN*5x5mm*P0.5mm*; Footprint: Package_DFN_QFN:QFN-32-1EP_5x5mm_P0.5mm_EP3.6x3.6mm; Supplier: http://ww1.microchip.com/downloads/en/DeviceDoc/SAM_D21_DA1_Family_Data%20Sheet_DS40001882E.pdf
footprint QFN-32-1EP_5x5mm_P0.5mm_EP3.6x3.6mm
pins: 1 PA00 (io), 2 PA01 (io), 3 PA02 (io), 4 PA03 (io), 5 PA04 (io), 6 PA05 (io), 7 PA06 (io), 8 PA07 (io), 9 VDDANA (power), 10 GND (power), 11 PA08 (io), 12 PA09 (io), 13 PA10 (io), 14 PA11 (io), 15 PA14 (io), 16 PA15 (io), 17 PA16 (io), 18 PA17 (io), 19 PA18 (io), 20 PA19 (io), 21 PA22 (io), 22 PA23 (io), 23 PA24 (io), 24 PA25 (io), 25 PA27 (io), 26 ~{{RESET}} (in), 27 PA28 (io), 28 GND hidden, 29 VDDCORE (power), 30 VDDIN (power), 31 PA30 (io), 32 PA31 (io), 33 EP

## ATSAMD21E17L-A
designator *  value ATSAMD21E17L-A
ki_keywords: 32-bit ARM Cortex-M0+ MCU Microcontroller; ki_description: SAM D21 Microchip SMART ARM-based Flash MCU, 48Mhz, 128K Flash w/ 4K RWW, 16K SRAM, Pinout Optimized for Analog & PWM, TQFP-32; ki_fp_filters: TQFP*7x7mm*P0.8mm*; Footprint: Package_QFP:TQFP-32_7x7mm_P0.8mm; Supplier: http://ww1.microchip.com/downloads/en/DeviceDoc/SAM_D21_DA1_Family_Data%20Sheet_DS40001882E.pdf
footprint TQFP-32_7x7mm_P0.8mm
pins: 1 PA02 (io), 2 PA03 (io), 3 PB04 (io), 4 PB05 (io), 5 PA04 (io), 6 PA05 (io), 7 PA06 (io), 8 PA07 (io), 9 VDDIO/VDDANA (power), 10 GND (power), 11 PA08 (io), 12 PA09 (io), 13 PA10 (io), 14 PA11 (io), 15 PA14 (io), 16 PA15 (io), 17 PA16 (io), 18 PA17 (io), 19 PA18 (io), 20 PA19 (io), 21 PA22 (io), 22 PA23 (io), 23 PA24 (io), 24 PA25 (io), 25 ~{{RESET}} (in), 26 GND hidden, 27 VDDCORE (power), 28 VDDIO (power), 29 PA30 (io), 30 PA31 (io), 31 PB02 (io), 32 PB03 (io)

## ATSAMD21E17L-M
designator *  value ATSAMD21E17L-M
ki_keywords: 32-bit ARM Cortex-M0+ MCU Microcontroller; ki_description: SAM D21 Microchip SMART ARM-based Flash MCU, 48Mhz, 128K Flash w/ 4K RWW, 16K SRAM, Pinout Optimized for Analog & PWM, QFN-32; ki_fp_filters: QFN*5x5mm*P0.5mm*; Footprint: Package_DFN_QFN:QFN-32-1EP_5x5mm_P0.5mm_EP3.6x3.6mm; Supplier: http://ww1.microchip.com/downloads/en/DeviceDoc/SAM_D21_DA1_Family_Data%20Sheet_DS40001882E.pdf
footprint QFN-32-1EP_5x5mm_P0.5mm_EP3.6x3.6mm
pins: 1 PA02 (io), 2 PA03 (io), 3 PB04 (io), 4 PB05 (io), 5 PA04 (io), 6 PA05 (io), 7 PA06 (io), 8 PA07 (io), 9 VDDIO/VDDANA (power), 10 GND (power), 11 PA08 (io), 12 PA09 (io), 13 PA10 (io), 14 PA11 (io), 15 PA14 (io), 16 PA15 (io), 17 PA16 (io), 18 PA17 (io), 19 PA18 (io), 20 PA19 (io), 21 PA22 (io), 22 PA23 (io), 23 PA24 (io), 24 PA25 (io), 25 ~{{RESET}} (in), 26 GND hidden, 27 VDDCORE (power), 28 VDDIO (power), 29 PA30 (io), 30 PA31 (io), 31 PB02 (io), 32 PB03 (io), 33 EP

## ATSAMD21E18A-A
designator *  value ATSAMD21E18A-A
ki_keywords: 32-bit ARM Cortex-M0+ MCU Microcontroller; ki_description: SAM D21 Microchip SMART ARM-based Flash MCU, 48Mhz, 256K Flash, 32K SRAM, TQFP-32; ki_fp_filters: TQFP*7x7mm*P0.8mm*; Footprint: Package_QFP:TQFP-32_7x7mm_P0.8mm; Supplier: http://ww1.microchip.com/downloads/en/DeviceDoc/SAM_D21_DA1_Family_Data%20Sheet_DS40001882E.pdf
footprint TQFP-32_7x7mm_P0.8mm
pins: 1 PA00 (io), 2 PA01 (io), 3 PA02 (io), 4 PA03 (io), 5 PA04 (io), 6 PA05 (io), 7 PA06 (io), 8 PA07 (io), 9 VDDANA (power), 10 GND (power), 11 PA08 (io), 12 PA09 (io), 13 PA10 (io), 14 PA11 (io), 15 PA14 (io), 16 PA15 (io), 17 PA16 (io), 18 PA17 (io), 19 PA18 (io), 20 PA19 (io), 21 PA22 (io), 22 PA23 (io), 23 PA24 (io), 24 PA25 (io), 25 PA27 (io), 26 ~{{RESET}} (in), 27 PA28 (io), 28 GND hidden, 29 VDDCORE (power), 30 VDDIN (power), 31 PA30 (io), 32 PA31 (io)

## ATSAMD21E18A-M
designator *  value ATSAMD21E18A-M
ki_keywords: 32-bit ARM Cortex-M0+ MCU Microcontroller; ki_description: SAM D21 Microchip SMART ARM-based Flash MCU, 48Mhz, 256K Flash, 32K SRAM, QFN-32; ki_fp_filters: QFN*5x5mm*P0.5mm*; Footprint: Package_DFN_QFN:QFN-32-1EP_5x5mm_P0.5mm_EP3.6x3.6mm; Supplier: http://ww1.microchip.com/downloads/en/DeviceDoc/SAM_D21_DA1_Family_Data%20Sheet_DS40001882E.pdf
footprint QFN-32-1EP_5x5mm_P0.5mm_EP3.6x3.6mm
pins: 1 PA00 (io), 2 PA01 (io), 3 PA02 (io), 4 PA03 (io), 5 PA04 (io), 6 PA05 (io), 7 PA06 (io), 8 PA07 (io), 9 VDDANA (power), 10 GND (power), 11 PA08 (io), 12 PA09 (io), 13 PA10 (io), 14 PA11 (io), 15 PA14 (io), 16 PA15 (io), 17 PA16 (io), 18 PA17 (io), 19 PA18 (io), 20 PA19 (io), 21 PA22 (io), 22 PA23 (io), 23 PA24 (io), 24 PA25 (io), 25 PA27 (io), 26 ~{{RESET}} (in), 27 PA28 (io), 28 GND hidden, 29 VDDCORE (power), 30 VDDIN (power), 31 PA30 (io), 32 PA31 (io), 33 EP

## ATSAMD21G15A-A
designator *  value ATSAMD21G15A-A
ki_keywords: 32-bit ARM Cortex-M0+ MCU Microcontroller; ki_description: SAM D21 Microchip SMART ARM-based Flash MCU, 48Mhz, 32K Flash, 4K SRAM, TQFP-48; ki_fp_filters: TQFP*7x7mm*P0.5mm*; Footprint: Package_QFP:TQFP-48_7x7mm_P0.5mm; Supplier: http://ww1.microchip.com/downloads/en/DeviceDoc/SAM_D21_DA1_Family_Data%20Sheet_DS40001882E.pdf
footprint TQFP-48_7x7mm_P0.5mm
pins: 1 PA00 (io), 2 PA01 (io), 3 PA02 (io), 4 PA03 (io), 5 GNDANA (power), 6 VDDANA (power), 7 PB08 (io), 8 PB09 (io), 9 PA04 (io), 10 PA05 (io), 11 PA06 (io), 12 PA07 (io), 13 PA08 (io), 14 PA09 (io), 15 PA10 (io), 16 PA11 (io), 17 VDDIO (power), 18 GND (power), 19 PB10 (io), 20 PB11 (io), 21 PA12 (io), 22 PA13 (io), 23 PA14 (io), 24 PA15 (io), 25 PA16 (io), 26 PA17 (io), 27 PA18 (io), 28 PA19 (io), 29 PA20 (io), 30 PA21 (io), 31 PA22 (io), 32 PA23 (io), 33 PA24 (io), 34 PA25 (io), 35 GND hidden, 36 VDDIO (power), 37 PB22 (io), 38 PB23 (io), 39 PA27 (io), 40 ~{{RESET}} (in), 41 PA28 (io), 42 GND hidden, 43 VDDCORE (power), 44 VDDIN (power), 45 PA30 (io), 46 PA31 (io), 47 PB02 (io), 48 PB03 (io)

## ATSAMD21G15A-M
designator *  value ATSAMD21G15A-M
ki_keywords: 32-bit ARM Cortex-M0+ MCU Microcontroller; ki_description: SAM D21 Microchip SMART ARM-based Flash MCU, 48Mhz, 32K Flash, 4K SRAM, QFN-48; ki_fp_filters: QFN*7x7mm*P0.5mm*; Footprint: Package_DFN_QFN:QFN-48-1EP_7x7mm_P0.5mm_EP5.15x5.15mm; Supplier: http://ww1.microchip.com/downloads/en/DeviceDoc/SAM_D21_DA1_Family_Data%20Sheet_DS40001882E.pdf
footprint QFN-48-1EP_7x7mm_P0.5mm_EP5.15x5.15mm
pins: 1 PA00 (io), 2 PA01 (io), 3 PA02 (io), 4 PA03 (io), 5 GNDANA (power), 6 VDDANA (power), 7 PB08 (io), 8 PB09 (io), 9 PA04 (io), 10 PA05 (io), 11 PA06 (io), 12 PA07 (io), 13 PA08 (io), 14 PA09 (io), 15 PA10 (io), 16 PA11 (io), 17 VDDIO (power), 18 GND (power), 19 PB10 (io), 20 PB11 (io), 21 PA12 (io), 22 PA13 (io), 23 PA14 (io), 24 PA15 (io), 25 PA16 (io), 26 PA17 (io), 27 PA18 (io), 28 PA19 (io), 29 PA20 (io), 30 PA21 (io), 31 PA22 (io), 32 PA23 (io), 33 PA24 (io), 34 PA25 (io), 35 GND hidden, 36 VDDIO (power), 37 PB22 (io), 38 PB23 (io), 39 PA27 (io), 40 ~{{RESET}} (in), 41 PA28 (io), 42 GND hidden, 43 VDDCORE (power), 44 VDDIN (power), 45 PA30 (io), 46 PA31 (io), 47 PB02 (io), 48 PB03 (io), 49 EP

## ATSAMD21G15B-A
designator *  value ATSAMD21G15B-A
ki_keywords: 32-bit ARM Cortex-M0+ MCU Microcontroller; ki_description: SAM D21 Microchip SMART ARM-based Flash MCU, 48Mhz, 32K Flash w/ 1K RWW, 4K SRAM, TQFP-48; ki_fp_filters: TQFP*7x7mm*P0.5mm*; Footprint: Package_QFP:TQFP-48_7x7mm_P0.5mm; Supplier: http://ww1.microchip.com/downloads/en/DeviceDoc/SAM_D21_DA1_Family_Data%20Sheet_DS40001882E.pdf
footprint TQFP-48_7x7mm_P0.5mm
pins: 1 PA00 (io), 2 PA01 (io), 3 PA02 (io), 4 PA03 (io), 5 GNDANA (power), 6 VDDANA (power), 7 PB08 (io), 8 PB09 (io), 9 PA04 (io), 10 PA05 (io), 11 PA06 (io), 12 PA07 (io), 13 PA08 (io), 14 PA09 (io), 15 PA10 (io), 16 PA11 (io), 17 VDDIO (power), 18 GND (power), 19 PB10 (io), 20 PB11 (io), 21 PA12 (io), 22 PA13 (io), 23 PA14 (io), 24 PA15 (io), 25 PA16 (io), 26 PA17 (io), 27 PA18 (io), 28 PA19 (io), 29 PA20 (io), 30 PA21 (io), 31 PA22 (io), 32 PA23 (io), 33 PA24 (io), 34 PA25 (io), 35 GND hidden, 36 VDDIO (power), 37 PB22 (io), 38 PB23 (io), 39 PA27 (io), 40 ~{{RESET}} (in), 41 PA28 (io), 42 GND hidden, 43 VDDCORE (power), 44 VDDIN (power), 45 PA30 (io), 46 PA31 (io), 47 PB02 (io), 48 PB03 (io)

## ATSAMD21G15B-M
designator *  value ATSAMD21G15B-M
ki_keywords: 32-bit ARM Cortex-M0+ MCU Microcontroller; ki_description: SAM D21 Microchip SMART ARM-based Flash MCU, 48Mhz, 32K Flash w/ 1K RWW, 4K SRAM, QFN-48; ki_fp_filters: QFN*7x7mm*P0.5mm*; Footprint: Package_DFN_QFN:QFN-48-1EP_7x7mm_P0.5mm_EP5.15x5.15mm; Supplier: http://ww1.microchip.com/downloads/en/DeviceDoc/SAM_D21_DA1_Family_Data%20Sheet_DS40001882E.pdf
footprint QFN-48-1EP_7x7mm_P0.5mm_EP5.15x5.15mm
pins: 1 PA00 (io), 2 PA01 (io), 3 PA02 (io), 4 PA03 (io), 5 GNDANA (power), 6 VDDANA (power), 7 PB08 (io), 8 PB09 (io), 9 PA04 (io), 10 PA05 (io), 11 PA06 (io), 12 PA07 (io), 13 PA08 (io), 14 PA09 (io), 15 PA10 (io), 16 PA11 (io), 17 VDDIO (power), 18 GND (power), 19 PB10 (io), 20 PB11 (io), 21 PA12 (io), 22 PA13 (io), 23 PA14 (io), 24 PA15 (io), 25 PA16 (io), 26 PA17 (io), 27 PA18 (io), 28 PA19 (io), 29 PA20 (io), 30 PA21 (io), 31 PA22 (io), 32 PA23 (io), 33 PA24 (io), 34 PA25 (io), 35 GND hidden, 36 VDDIO (power), 37 PB22 (io), 38 PB23 (io), 39 PA27 (io), 40 ~{{RESET}} (in), 41 PA28 (io), 42 GND hidden, 43 VDDCORE (power), 44 VDDIN (power), 45 PA30 (io), 46 PA31 (io), 47 PB02 (io), 48 PB03 (io), 49 EP

## ATSAMD21G16A-A
designator *  value ATSAMD21G16A-A
ki_keywords: 32-bit ARM Cortex-M0+ MCU Microcontroller; ki_description: SAM D21 Microchip SMART ARM-based Flash MCU, 48Mhz, 64K Flash, 8K SRAM, TQFP-48; ki_fp_filters: TQFP*7x7mm*P0.5mm*; Footprint: Package_QFP:TQFP-48_7x7mm_P0.5mm; Supplier: http://ww1.microchip.com/downloads/en/DeviceDoc/SAM_D21_DA1_Family_Data%20Sheet_DS40001882E.pdf
footprint TQFP-48_7x7mm_P0.5mm
pins: 1 PA00 (io), 2 PA01 (io), 3 PA02 (io), 4 PA03 (io), 5 GNDANA (power), 6 VDDANA (power), 7 PB08 (io), 8 PB09 (io), 9 PA04 (io), 10 PA05 (io), 11 PA06 (io), 12 PA07 (io), 13 PA08 (io), 14 PA09 (io), 15 PA10 (io), 16 PA11 (io), 17 VDDIO (power), 18 GND (power), 19 PB10 (io), 20 PB11 (io), 21 PA12 (io), 22 PA13 (io), 23 PA14 (io), 24 PA15 (io), 25 PA16 (io), 26 PA17 (io), 27 PA18 (io), 28 PA19 (io), 29 PA20 (io), 30 PA21 (io), 31 PA22 (io), 32 PA23 (io), 33 PA24 (io), 34 PA25 (io), 35 GND hidden, 36 VDDIO (power), 37 PB22 (io), 38 PB23 (io), 39 PA27 (io), 40 ~{{RESET}} (in), 41 PA28 (io), 42 GND hidden, 43 VDDCORE (power), 44 VDDIN (power), 45 PA30 (io), 46 PA31 (io), 47 PB02 (io), 48 PB03 (io)

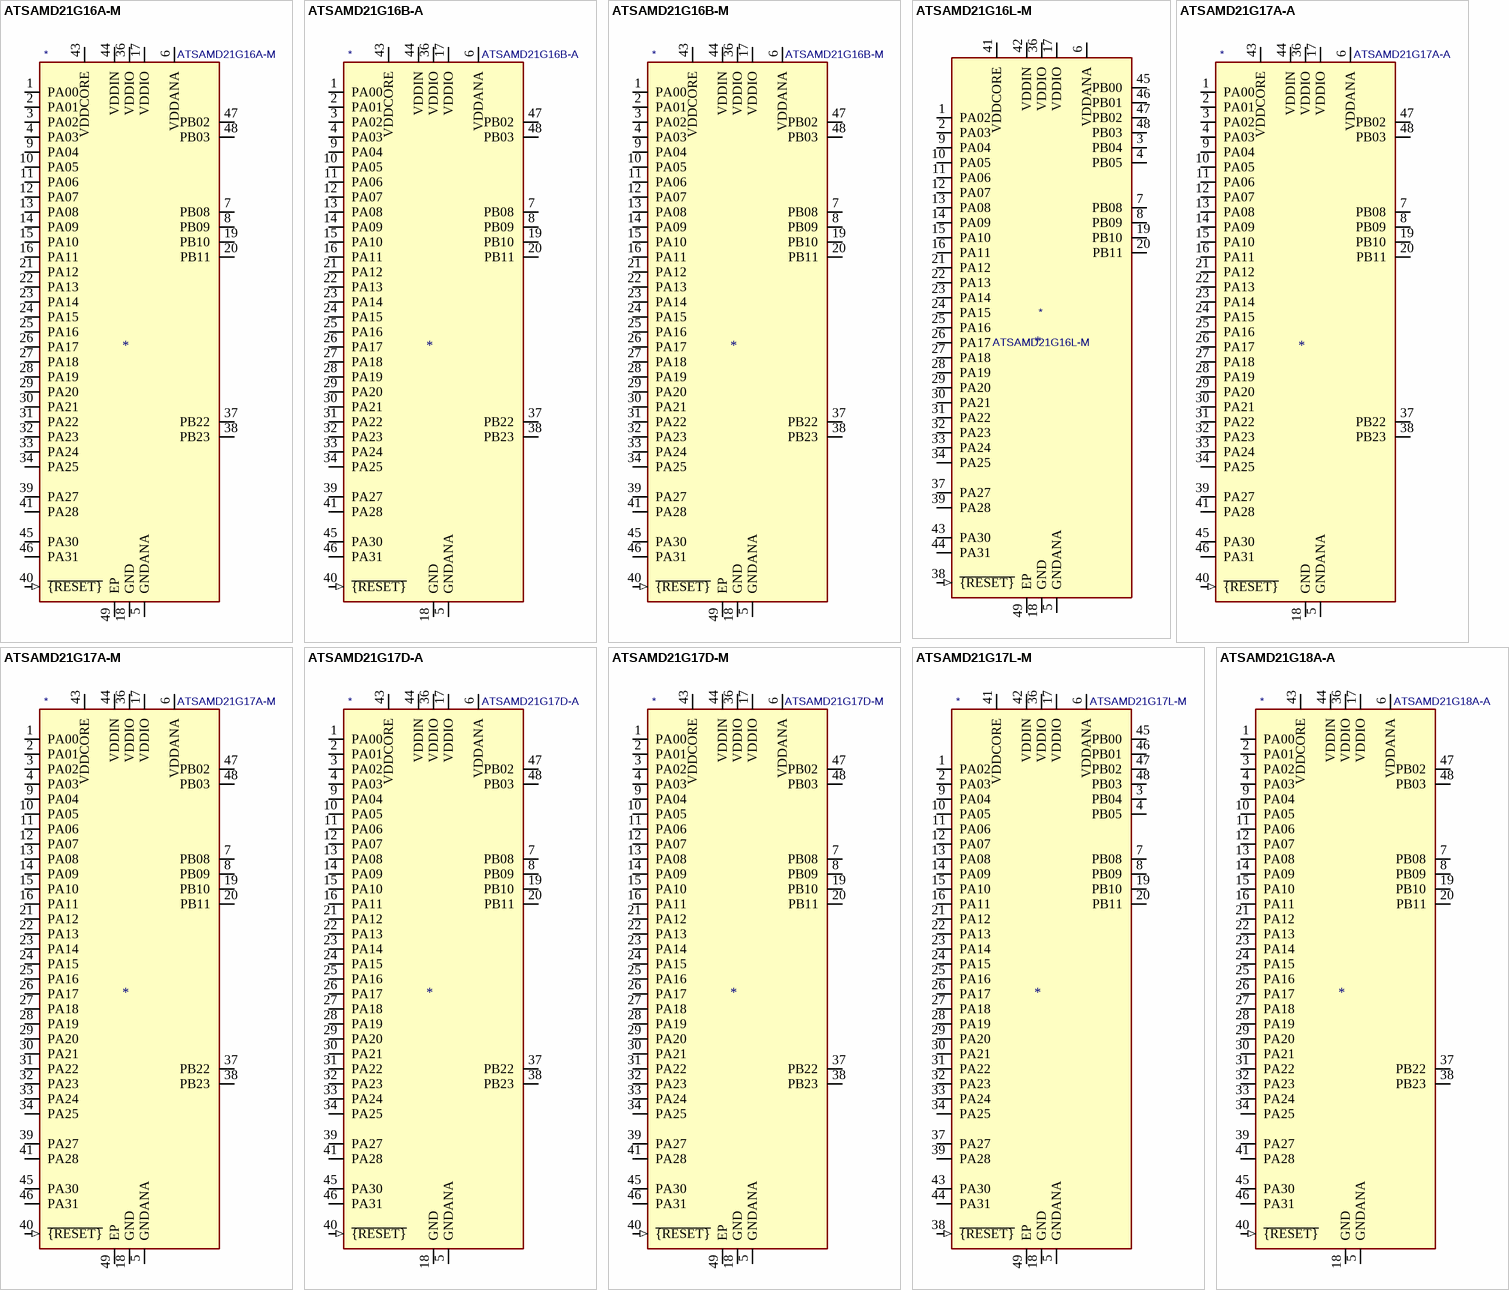
[diagram p3: symbols ATSAMD21G16A-M to ATSAMD21G18A-A]

## ATSAMD21G16A-M
designator *  value ATSAMD21G16A-M
ki_keywords: 32-bit ARM Cortex-M0+ MCU Microcontroller; ki_description: SAM D21 Microchip SMART ARM-based Flash MCU, 48Mhz, 64K Flash, 8K SRAM, QFN-48; ki_fp_filters: QFN*7x7mm*P0.5mm*; Footprint: Package_DFN_QFN:QFN-48-1EP_7x7mm_P0.5mm_EP5.15x5.15mm; Supplier: http://ww1.microchip.com/downloads/en/DeviceDoc/SAM_D21_DA1_Family_Data%20Sheet_DS40001882E.pdf
footprint QFN-48-1EP_7x7mm_P0.5mm_EP5.15x5.15mm
pins: 1 PA00 (io), 2 PA01 (io), 3 PA02 (io), 4 PA03 (io), 5 GNDANA (power), 6 VDDANA (power), 7 PB08 (io), 8 PB09 (io), 9 PA04 (io), 10 PA05 (io), 11 PA06 (io), 12 PA07 (io), 13 PA08 (io), 14 PA09 (io), 15 PA10 (io), 16 PA11 (io), 17 VDDIO (power), 18 GND (power), 19 PB10 (io), 20 PB11 (io), 21 PA12 (io), 22 PA13 (io), 23 PA14 (io), 24 PA15 (io), 25 PA16 (io), 26 PA17 (io), 27 PA18 (io), 28 PA19 (io), 29 PA20 (io), 30 PA21 (io), 31 PA22 (io), 32 PA23 (io), 33 PA24 (io), 34 PA25 (io), 35 GND hidden, 36 VDDIO (power), 37 PB22 (io), 38 PB23 (io), 39 PA27 (io), 40 ~{{RESET}} (in), 41 PA28 (io), 42 GND hidden, 43 VDDCORE (power), 44 VDDIN (power), 45 PA30 (io), 46 PA31 (io), 47 PB02 (io), 48 PB03 (io), 49 EP

## ATSAMD21G16B-A
designator *  value ATSAMD21G16B-A
ki_keywords: 32-bit ARM Cortex-M0+ MCU Microcontroller; ki_description: SAM D21 Microchip SMART ARM-based Flash MCU, 48Mhz, 64K Flash w/ 2K RWW, 8K SRAM, TQFP-48; ki_fp_filters: TQFP*7x7mm*P0.5mm*; Footprint: Package_QFP:TQFP-48_7x7mm_P0.5mm; Supplier: http://ww1.microchip.com/downloads/en/DeviceDoc/SAM_D21_DA1_Family_Data%20Sheet_DS40001882E.pdf
footprint TQFP-48_7x7mm_P0.5mm
pins: 1 PA00 (io), 2 PA01 (io), 3 PA02 (io), 4 PA03 (io), 5 GNDANA (power), 6 VDDANA (power), 7 PB08 (io), 8 PB09 (io), 9 PA04 (io), 10 PA05 (io), 11 PA06 (io), 12 PA07 (io), 13 PA08 (io), 14 PA09 (io), 15 PA10 (io), 16 PA11 (io), 17 VDDIO (power), 18 GND (power), 19 PB10 (io), 20 PB11 (io), 21 PA12 (io), 22 PA13 (io), 23 PA14 (io), 24 PA15 (io), 25 PA16 (io), 26 PA17 (io), 27 PA18 (io), 28 PA19 (io), 29 PA20 (io), 30 PA21 (io), 31 PA22 (io), 32 PA23 (io), 33 PA24 (io), 34 PA25 (io), 35 GND hidden, 36 VDDIO (power), 37 PB22 (io), 38 PB23 (io), 39 PA27 (io), 40 ~{{RESET}} (in), 41 PA28 (io), 42 GND hidden, 43 VDDCORE (power), 44 VDDIN (power), 45 PA30 (io), 46 PA31 (io), 47 PB02 (io), 48 PB03 (io)

## ATSAMD21G16B-M
designator *  value ATSAMD21G16B-M
ki_keywords: 32-bit ARM Cortex-M0+ MCU Microcontroller; ki_description: SAM D21 Microchip SMART ARM-based Flash MCU, 48Mhz, 64K Flash w/ 2K RWW, 8K SRAM, QFN-48; ki_fp_filters: QFN*7x7mm*P0.5mm*; Footprint: Package_DFN_QFN:QFN-48-1EP_7x7mm_P0.5mm_EP5.15x5.15mm; Supplier: http://ww1.microchip.com/downloads/en/DeviceDoc/SAM_D21_DA1_Family_Data%20Sheet_DS40001882E.pdf
footprint QFN-48-1EP_7x7mm_P0.5mm_EP5.15x5.15mm
pins: 1 PA00 (io), 2 PA01 (io), 3 PA02 (io), 4 PA03 (io), 5 GNDANA (power), 6 VDDANA (power), 7 PB08 (io), 8 PB09 (io), 9 PA04 (io), 10 PA05 (io), 11 PA06 (io), 12 PA07 (io), 13 PA08 (io), 14 PA09 (io), 15 PA10 (io), 16 PA11 (io), 17 VDDIO (power), 18 GND (power), 19 PB10 (io), 20 PB11 (io), 21 PA12 (io), 22 PA13 (io), 23 PA14 (io), 24 PA15 (io), 25 PA16 (io), 26 PA17 (io), 27 PA18 (io), 28 PA19 (io), 29 PA20 (io), 30 PA21 (io), 31 PA22 (io), 32 PA23 (io), 33 PA24 (io), 34 PA25 (io), 35 GND hidden, 36 VDDIO (power), 37 PB22 (io), 38 PB23 (io), 39 PA27 (io), 40 ~{{RESET}} (in), 41 PA28 (io), 42 GND hidden, 43 VDDCORE (power), 44 VDDIN (power), 45 PA30 (io), 46 PA31 (io), 47 PB02 (io), 48 PB03 (io), 49 EP

## ATSAMD21G16L-M
designator *  value ATSAMD21G16L-M
ki_keywords: 32-bit ARM Cortex-M0+ MCU Microcontroller; ki_description: SAM D21 Microchip SMART ARM-based Flash MCU, 48Mhz, 64K Flash w/ 2K RWW, 8K SRAM, Pinout Optimized for Analog & PWM, QFN-48; ki_fp_filters: QFN*7x7mm*P0.5mm*; Footprint: Package_DFN_QFN:QFN-48-1EP_7x7mm_P0.5mm_EP5.15x5.15mm; Supplier: http://ww1.microchip.com/downloads/en/DeviceDoc/SAM_D21_DA1_Family_Data%20Sheet_DS40001882E.pdf
footprint QFN-48-1EP_7x7mm_P0.5mm_EP5.15x5.15mm
pins: 1 PA02 (io), 2 PA03 (io), 3 PB04 (io), 4 PB05 (io), 5 GNDANA (power), 6 VDDANA (power), 7 PB08 (io), 8 PB09 (io), 9 PA04 (io), 10 PA05 (io), 11 PA06 (io), 12 PA07 (io), 13 PA08 (io), 14 PA09 (io), 15 PA10 (io), 16 PA11 (io), 17 VDDIO (power), 18 GND (power), 19 PB10 (io), 20 PB11 (io), 21 PA12 (io), 22 PA13 (io), 23 PA14 (io), 24 PA15 (io), 25 PA16 (io), 26 PA17 (io), 27 PA18 (io), 28 PA19 (io), 29 PA20 (io), 30 PA21 (io), 31 PA22 (io), 32 PA23 (io), 33 PA24 (io), 34 PA25 (io), 35 GND hidden, 36 VDDIO (power), 37 PA27 (io), 38 ~{{RESET}} (in), 39 PA28 (io), 40 GND hidden, 41 VDDCORE (power), 42 VDDIN (power), 43 PA30 (io), 44 PA31 (io), 45 PB00 (io), 46 PB01 (io), 47 PB02 (io), 48 PB03 (io), 49 EP

## ATSAMD21G17A-A
designator *  value ATSAMD21G17A-A
ki_keywords: 32-bit ARM Cortex-M0+ MCU Microcontroller; ki_description: SAM D21 Microchip SMART ARM-based Flash MCU, 48Mhz, 128K Flash, 16K SRAM, TQFP-48; ki_fp_filters: TQFP*7x7mm*P0.5mm*; Footprint: Package_QFP:TQFP-48_7x7mm_P0.5mm; Supplier: http://ww1.microchip.com/downloads/en/DeviceDoc/SAM_D21_DA1_Family_Data%20Sheet_DS40001882E.pdf
footprint TQFP-48_7x7mm_P0.5mm
pins: 1 PA00 (io), 2 PA01 (io), 3 PA02 (io), 4 PA03 (io), 5 GNDANA (power), 6 VDDANA (power), 7 PB08 (io), 8 PB09 (io), 9 PA04 (io), 10 PA05 (io), 11 PA06 (io), 12 PA07 (io), 13 PA08 (io), 14 PA09 (io), 15 PA10 (io), 16 PA11 (io), 17 VDDIO (power), 18 GND (power), 19 PB10 (io), 20 PB11 (io), 21 PA12 (io), 22 PA13 (io), 23 PA14 (io), 24 PA15 (io), 25 PA16 (io), 26 PA17 (io), 27 PA18 (io), 28 PA19 (io), 29 PA20 (io), 30 PA21 (io), 31 PA22 (io), 32 PA23 (io), 33 PA24 (io), 34 PA25 (io), 35 GND hidden, 36 VDDIO (power), 37 PB22 (io), 38 PB23 (io), 39 PA27 (io), 40 ~{{RESET}} (in), 41 PA28 (io), 42 GND hidden, 43 VDDCORE (power), 44 VDDIN (power), 45 PA30 (io), 46 PA31 (io), 47 PB02 (io), 48 PB03 (io)

## ATSAMD21G17A-M
designator *  value ATSAMD21G17A-M
ki_keywords: 32-bit ARM Cortex-M0+ MCU Microcontroller; ki_description: SAM D21 Microchip SMART ARM-based Flash MCU, 48Mhz, 128K Flash, 16K SRAM, QFN-48; ki_fp_filters: QFN*7x7mm*P0.5mm*; Footprint: Package_DFN_QFN:QFN-48-1EP_7x7mm_P0.5mm_EP5.15x5.15mm; Supplier: http://ww1.microchip.com/downloads/en/DeviceDoc/SAM_D21_DA1_Family_Data%20Sheet_DS40001882E.pdf
footprint QFN-48-1EP_7x7mm_P0.5mm_EP5.15x5.15mm
pins: 1 PA00 (io), 2 PA01 (io), 3 PA02 (io), 4 PA03 (io), 5 GNDANA (power), 6 VDDANA (power), 7 PB08 (io), 8 PB09 (io), 9 PA04 (io), 10 PA05 (io), 11 PA06 (io), 12 PA07 (io), 13 PA08 (io), 14 PA09 (io), 15 PA10 (io), 16 PA11 (io), 17 VDDIO (power), 18 GND (power), 19 PB10 (io), 20 PB11 (io), 21 PA12 (io), 22 PA13 (io), 23 PA14 (io), 24 PA15 (io), 25 PA16 (io), 26 PA17 (io), 27 PA18 (io), 28 PA19 (io), 29 PA20 (io), 30 PA21 (io), 31 PA22 (io), 32 PA23 (io), 33 PA24 (io), 34 PA25 (io), 35 GND hidden, 36 VDDIO (power), 37 PB22 (io), 38 PB23 (io), 39 PA27 (io), 40 ~{{RESET}} (in), 41 PA28 (io), 42 GND hidden, 43 VDDCORE (power), 44 VDDIN (power), 45 PA30 (io), 46 PA31 (io), 47 PB02 (io), 48 PB03 (io), 49 EP

## ATSAMD21G17D-A
designator *  value ATSAMD21G17D-A
ki_keywords: 32-bit ARM Cortex-M0+ MCU Microcontroller; ki_description: SAM D21 Microchip SMART ARM-based Flash MCU, 48Mhz, 128K Flash w/ 4K RWW, 16K SRAM, TQFP-48; ki_fp_filters: TQFP*7x7mm*P0.5mm*; Footprint: Package_QFP:TQFP-48_7x7mm_P0.5mm; Supplier: http://ww1.microchip.com/downloads/en/DeviceDoc/SAM_D21_DA1_Family_Data%20Sheet_DS40001882E.pdf
footprint TQFP-48_7x7mm_P0.5mm
pins: 1 PA00 (io), 2 PA01 (io), 3 PA02 (io), 4 PA03 (io), 5 GNDANA (power), 6 VDDANA (power), 7 PB08 (io), 8 PB09 (io), 9 PA04 (io), 10 PA05 (io), 11 PA06 (io), 12 PA07 (io), 13 PA08 (io), 14 PA09 (io), 15 PA10 (io), 16 PA11 (io), 17 VDDIO (power), 18 GND (power), 19 PB10 (io), 20 PB11 (io), 21 PA12 (io), 22 PA13 (io), 23 PA14 (io), 24 PA15 (io), 25 PA16 (io), 26 PA17 (io), 27 PA18 (io), 28 PA19 (io), 29 PA20 (io), 30 PA21 (io), 31 PA22 (io), 32 PA23 (io), 33 PA24 (io), 34 PA25 (io), 35 GND hidden, 36 VDDIO (power), 37 PB22 (io), 38 PB23 (io), 39 PA27 (io), 40 ~{{RESET}} (in), 41 PA28 (io), 42 GND hidden, 43 VDDCORE (power), 44 VDDIN (power), 45 PA30 (io), 46 PA31 (io), 47 PB02 (io), 48 PB03 (io)

## ATSAMD21G17D-M
designator *  value ATSAMD21G17D-M
ki_keywords: 32-bit ARM Cortex-M0+ MCU Microcontroller; ki_description: SAM D21 Microchip SMART ARM-based Flash MCU, 48Mhz, 128K Flash w/ 4K RWW, 16K SRAM, QFN-48; ki_fp_filters: QFN*7x7mm*P0.5mm*; Footprint: Package_DFN_QFN:QFN-48-1EP_7x7mm_P0.5mm_EP5.15x5.15mm; Supplier: http://ww1.microchip.com/downloads/en/DeviceDoc/SAM_D21_DA1_Family_Data%20Sheet_DS40001882E.pdf
footprint QFN-48-1EP_7x7mm_P0.5mm_EP5.15x5.15mm
pins: 1 PA00 (io), 2 PA01 (io), 3 PA02 (io), 4 PA03 (io), 5 GNDANA (power), 6 VDDANA (power), 7 PB08 (io), 8 PB09 (io), 9 PA04 (io), 10 PA05 (io), 11 PA06 (io), 12 PA07 (io), 13 PA08 (io), 14 PA09 (io), 15 PA10 (io), 16 PA11 (io), 17 VDDIO (power), 18 GND (power), 19 PB10 (io), 20 PB11 (io), 21 PA12 (io), 22 PA13 (io), 23 PA14 (io), 24 PA15 (io), 25 PA16 (io), 26 PA17 (io), 27 PA18 (io), 28 PA19 (io), 29 PA20 (io), 30 PA21 (io), 31 PA22 (io), 32 PA23 (io), 33 PA24 (io), 34 PA25 (io), 35 GND hidden, 36 VDDIO (power), 37 PB22 (io), 38 PB23 (io), 39 PA27 (io), 40 ~{{RESET}} (in), 41 PA28 (io), 42 GND hidden, 43 VDDCORE (power), 44 VDDIN (power), 45 PA30 (io), 46 PA31 (io), 47 PB02 (io), 48 PB03 (io), 49 EP

## ATSAMD21G17L-M
designator *  value ATSAMD21G17L-M
ki_keywords: 32-bit ARM Cortex-M0+ MCU Microcontroller; ki_description: SAM D21 Microchip SMART ARM-based Flash MCU, 48Mhz, 128K Flash w/ 4K RWW, 16K SRAM, Pinout Optimized for Analog & PWM, QFN-48; ki_fp_filters: QFN*7x7mm*P0.5mm*; Footprint: Package_DFN_QFN:QFN-48-1EP_7x7mm_P0.5mm_EP5.15x5.15mm; Supplier: http://ww1.microchip.com/downloads/en/DeviceDoc/SAM_D21_DA1_Family_Data%20Sheet_DS40001882E.pdf
footprint QFN-48-1EP_7x7mm_P0.5mm_EP5.15x5.15mm
pins: 1 PA02 (io), 2 PA03 (io), 3 PB04 (io), 4 PB05 (io), 5 GNDANA (power), 6 VDDANA (power), 7 PB08 (io), 8 PB09 (io), 9 PA04 (io), 10 PA05 (io), 11 PA06 (io), 12 PA07 (io), 13 PA08 (io), 14 PA09 (io), 15 PA10 (io), 16 PA11 (io), 17 VDDIO (power), 18 GND (power), 19 PB10 (io), 20 PB11 (io), 21 PA12 (io), 22 PA13 (io), 23 PA14 (io), 24 PA15 (io), 25 PA16 (io), 26 PA17 (io), 27 PA18 (io), 28 PA19 (io), 29 PA20 (io), 30 PA21 (io), 31 PA22 (io), 32 PA23 (io), 33 PA24 (io), 34 PA25 (io), 35 GND hidden, 36 VDDIO (power), 37 PA27 (io), 38 ~{{RESET}} (in), 39 PA28 (io), 40 GND hidden, 41 VDDCORE (power), 42 VDDIN (power), 43 PA30 (io), 44 PA31 (io), 45 PB00 (io), 46 PB01 (io), 47 PB02 (io), 48 PB03 (io), 49 EP

## ATSAMD21G18A-A
designator *  value ATSAMD21G18A-A
ki_keywords: 32-bit ARM Cortex-M0+ MCU Microcontroller; ki_description: SAM D21 Microchip SMART ARM-based Flash MCU, 48Mhz, 256K Flash, 32K SRAM, TQFP-48; ki_fp_filters: TQFP*7x7mm*P0.5mm*; Footprint: Package_QFP:TQFP-48_7x7mm_P0.5mm; Supplier: http://ww1.microchip.com/downloads/en/DeviceDoc/SAM_D21_DA1_Family_Data%20Sheet_DS40001882E.pdf
footprint TQFP-48_7x7mm_P0.5mm
pins: 1 PA00 (io), 2 PA01 (io), 3 PA02 (io), 4 PA03 (io), 5 GNDANA (power), 6 VDDANA (power), 7 PB08 (io), 8 PB09 (io), 9 PA04 (io), 10 PA05 (io), 11 PA06 (io), 12 PA07 (io), 13 PA08 (io), 14 PA09 (io), 15 PA10 (io), 16 PA11 (io), 17 VDDIO (power), 18 GND (power), 19 PB10 (io), 20 PB11 (io), 21 PA12 (io), 22 PA13 (io), 23 PA14 (io), 24 PA15 (io), 25 PA16 (io), 26 PA17 (io), 27 PA18 (io), 28 PA19 (io), 29 PA20 (io), 30 PA21 (io), 31 PA22 (io), 32 PA23 (io), 33 PA24 (io), 34 PA25 (io), 35 GND hidden, 36 VDDIO (power), 37 PB22 (io), 38 PB23 (io), 39 PA27 (io), 40 ~{{RESET}} (in), 41 PA28 (io), 42 GND hidden, 43 VDDCORE (power), 44 VDDIN (power), 45 PA30 (io), 46 PA31 (io), 47 PB02 (io), 48 PB03 (io)

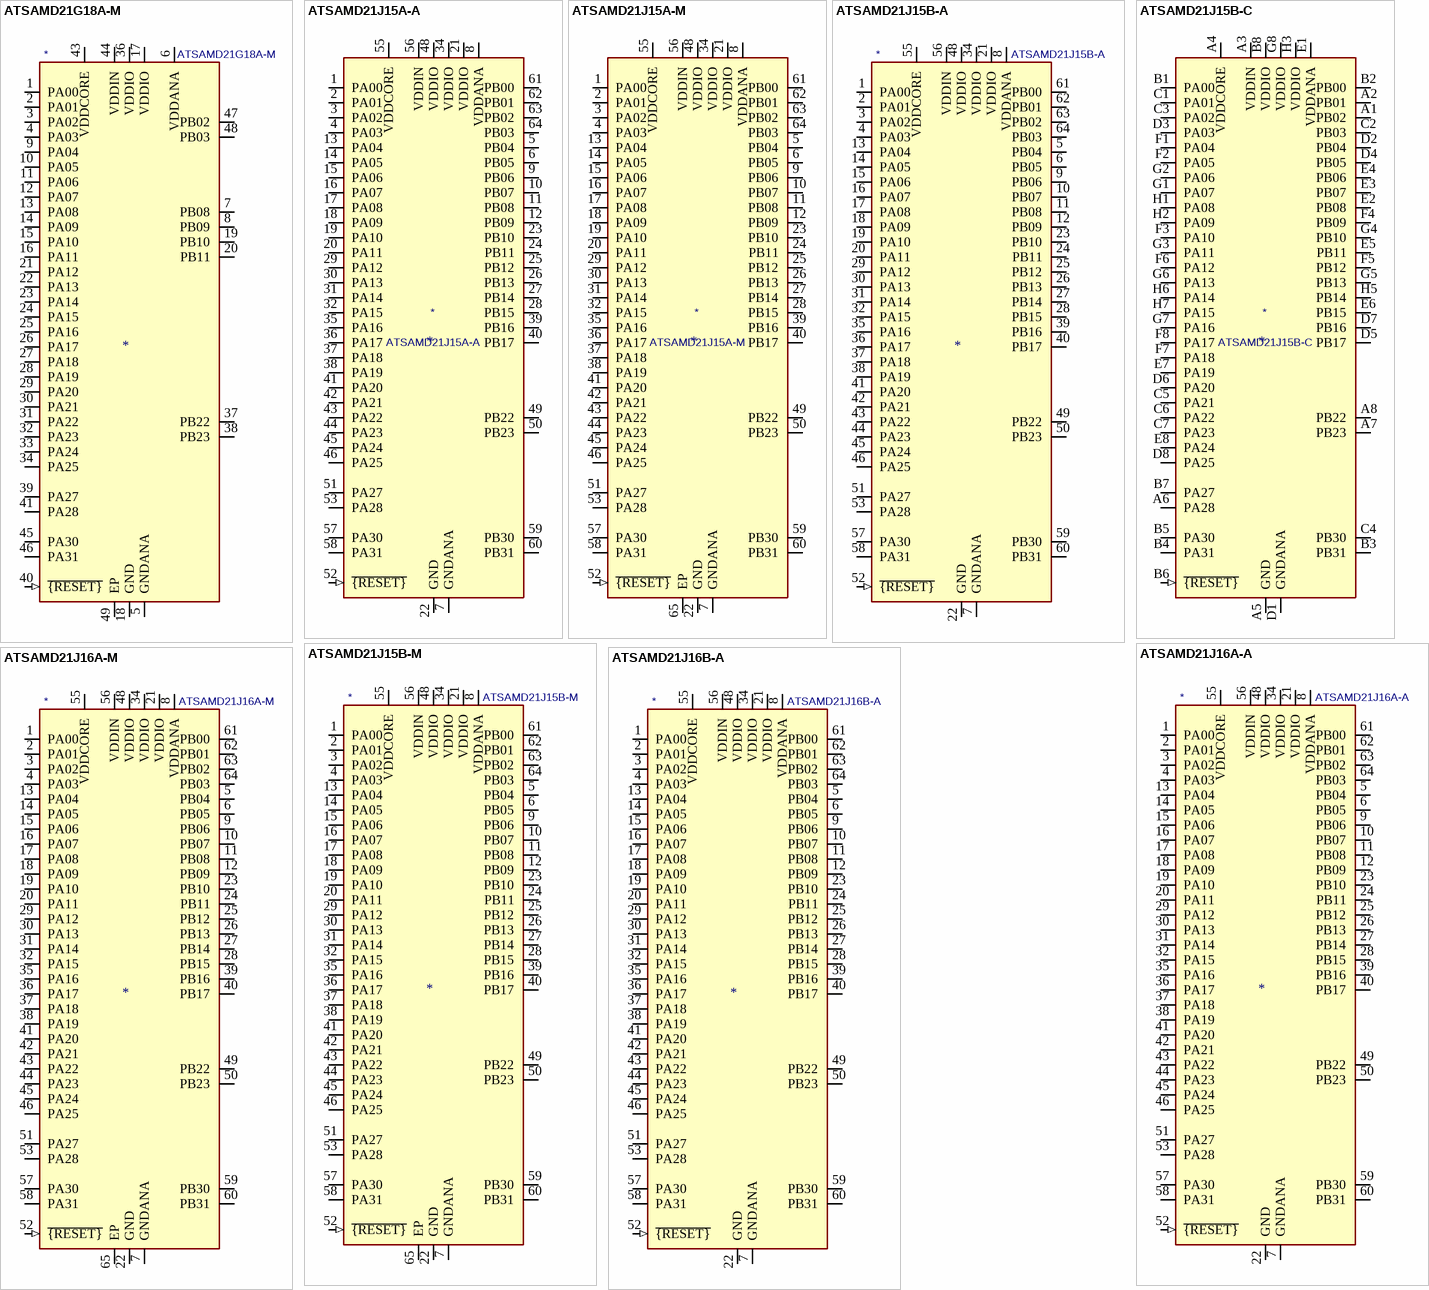
[diagram p4: symbols ATSAMD21G18A-M to ATSAMD21J16B-A]

## ATSAMD21G18A-M
designator *  value ATSAMD21G18A-M
ki_keywords: 32-bit ARM Cortex-M0+ MCU Microcontroller; ki_description: SAM D21 Microchip SMART ARM-based Flash MCU, 48Mhz, 256K Flash, 32K SRAM, QFN-48; ki_fp_filters: QFN*7x7mm*P0.5mm*; Footprint: Package_DFN_QFN:QFN-48-1EP_7x7mm_P0.5mm_EP5.15x5.15mm; Supplier: http://ww1.microchip.com/downloads/en/DeviceDoc/SAM_D21_DA1_Family_Data%20Sheet_DS40001882E.pdf
footprint QFN-48-1EP_7x7mm_P0.5mm_EP5.15x5.15mm
pins: 1 PA00 (io), 2 PA01 (io), 3 PA02 (io), 4 PA03 (io), 5 GNDANA (power), 6 VDDANA (power), 7 PB08 (io), 8 PB09 (io), 9 PA04 (io), 10 PA05 (io), 11 PA06 (io), 12 PA07 (io), 13 PA08 (io), 14 PA09 (io), 15 PA10 (io), 16 PA11 (io), 17 VDDIO (power), 18 GND (power), 19 PB10 (io), 20 PB11 (io), 21 PA12 (io), 22 PA13 (io), 23 PA14 (io), 24 PA15 (io), 25 PA16 (io), 26 PA17 (io), 27 PA18 (io), 28 PA19 (io), 29 PA20 (io), 30 PA21 (io), 31 PA22 (io), 32 PA23 (io), 33 PA24 (io), 34 PA25 (io), 35 GND hidden, 36 VDDIO (power), 37 PB22 (io), 38 PB23 (io), 39 PA27 (io), 40 ~{{RESET}} (in), 41 PA28 (io), 42 GND hidden, 43 VDDCORE (power), 44 VDDIN (power), 45 PA30 (io), 46 PA31 (io), 47 PB02 (io), 48 PB03 (io), 49 EP

## ATSAMD21J15A-A
designator *  value ATSAMD21J15A-A
ki_keywords: 32-bit ARM Cortex-M0+ MCU Microcontroller; ki_description: SAM D21 Microchip SMART ARM-based Flash MCU, 48Mhz, 32K Flash, 4K SRAM, TQFP-64; ki_fp_filters: TQFP*10x10mm*P0.5mm*; Footprint: Package_QFP:TQFP-64_10x10mm_P0.5mm; Supplier: http://ww1.microchip.com/downloads/en/DeviceDoc/SAM_D21_DA1_Family_Data%20Sheet_DS40001882E.pdf
footprint TQFP-64_10x10mm_P0.5mm
pins: 1 PA00 (io), 2 PA01 (io), 3 PA02 (io), 4 PA03 (io), 5 PB04 (io), 6 PB05 (io), 7 GNDANA (power), 8 VDDANA (power), 9 PB06 (io), 10 PB07 (io), 11 PB08 (io), 12 PB09 (io), 13 PA04 (io), 14 PA05 (io), 15 PA06 (io), 16 PA07 (io), 17 PA08 (io), 18 PA09 (io), 19 PA10 (io), 20 PA11 (io), 21 VDDIO (power), 22 GND (power), 23 PB10 (io), 24 PB11 (io), 25 PB12 (io), 26 PB13 (io), 27 PB14 (io), 28 PB15 (io), 29 PA12 (io), 30 PA13 (io), 31 PA14 (io), 32 PA15 (io), 33 GND hidden, 34 VDDIO (power), 35 PA16 (io), 36 PA17 (io), 37 PA18 (io), 38 PA19 (io), 39 PB16 (io), 40 PB17 (io), 41 PA20 (io), 42 PA21 (io), 43 PA22 (io), 44 PA23 (io), 45 PA24 (io), 46 PA25 (io), 47 GND hidden, 48 VDDIO (power), 49 PB22 (io), 50 PB23 (io), 51 PA27 (io), 52 ~{{RESET}} (in), 53 PA28 (io), 54 GND hidden, 55 VDDCORE (power), 56 VDDIN (power), 57 PA30 (io), 58 PA31 (io), 59 PB30 (io), 60 PB31 (io), 61 PB00 (io), 62 PB01 (io), 63 PB02 (io), 64 PB03 (io)